# Altium integrated library CommonElectronicsLibrary.IntLib: 214 symbols (part 2 of 4)
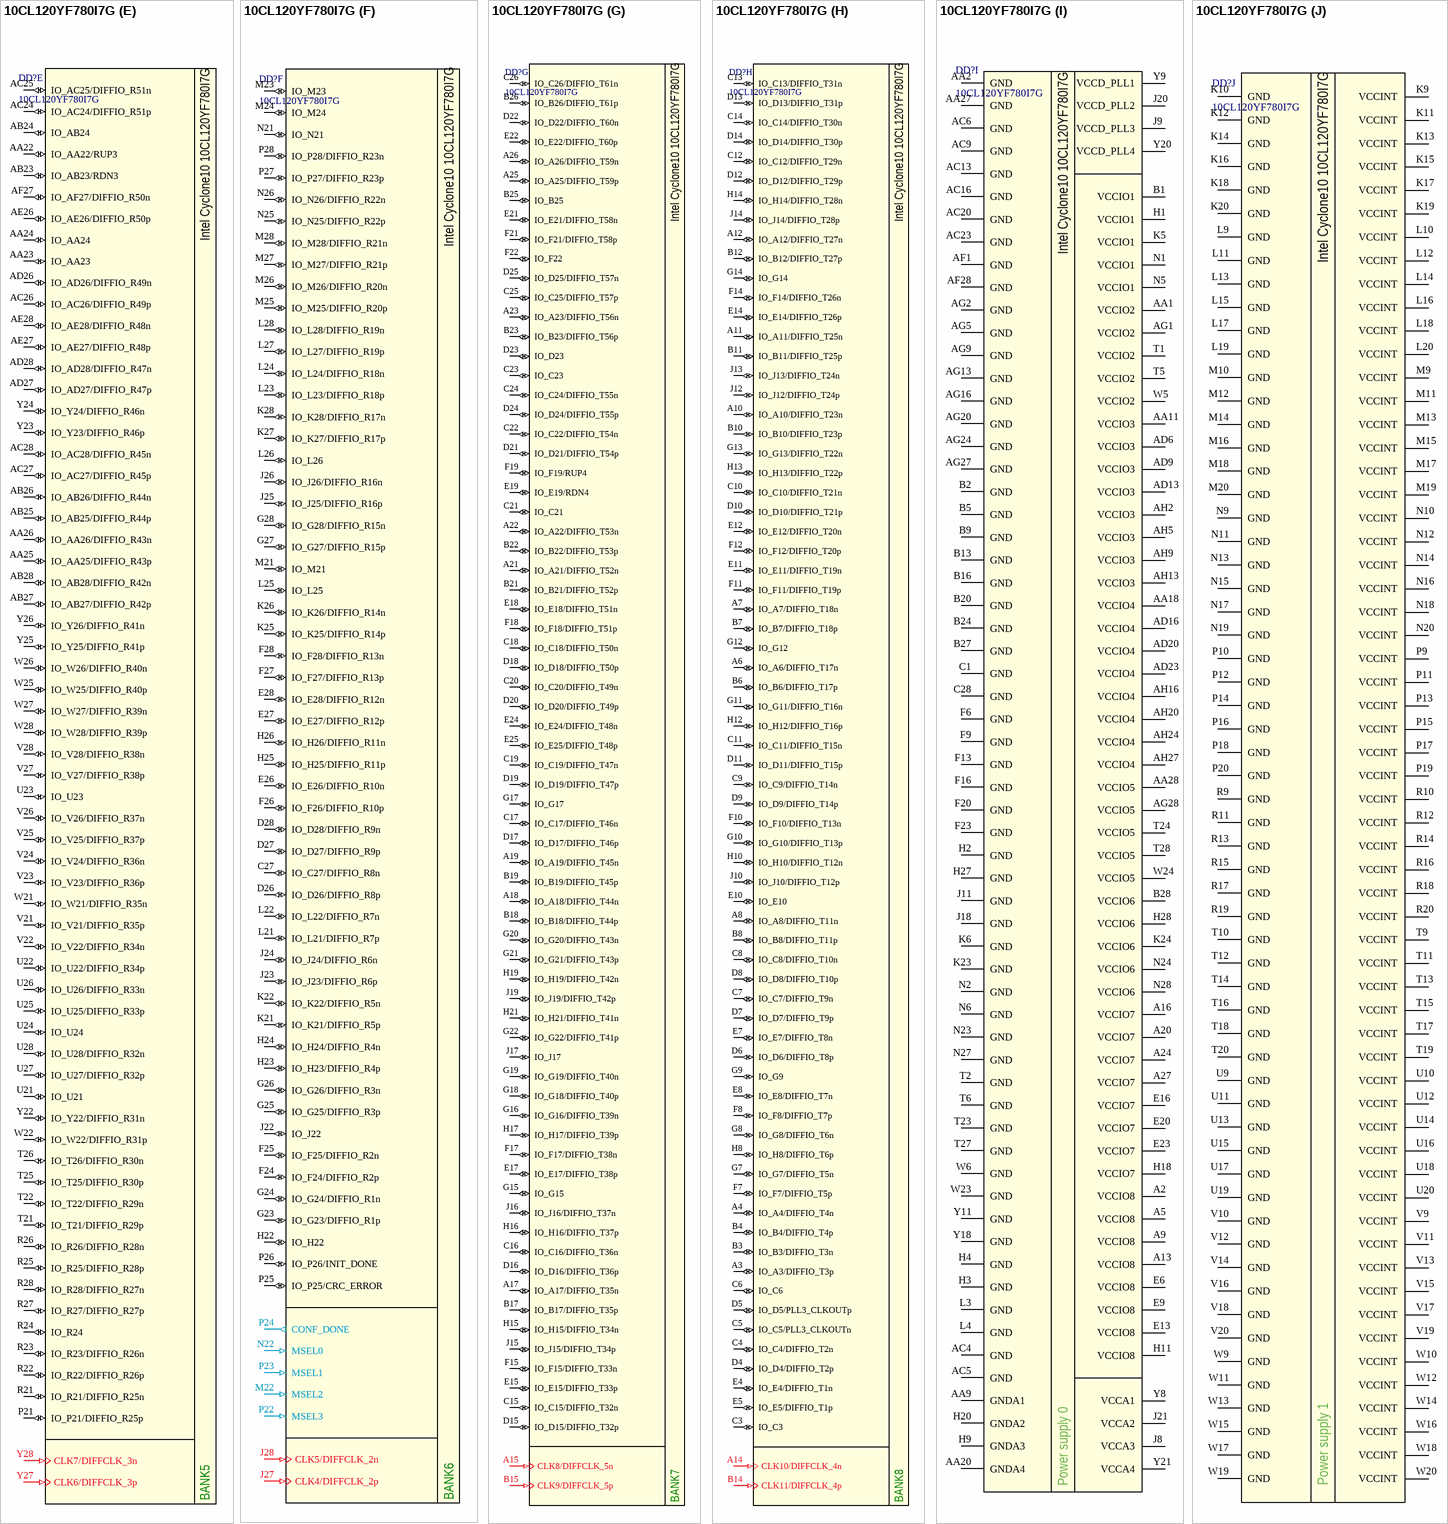
[diagram p61: symbol 10CL120YF780I7G]

## 10CL120YF780I7G
designator DD?
Intel Cyclone 10 FPGA with 120k LEs; Package: FBGA-780; Part Number: 10CL120YF780I7G
part A pins: C2 IO_C2/DIFFIO_L1n (io), D1 IO_D1/DIFFIO_L2n (io), D2 IO_D2/DIFFIO_L2p (io), D3 IO_D3/DIFFIO_L1p (io), E1 IO_E1/DIFFIO_L8n (io), E2 IO_E2/DIFFIO_L8p (io), E3 IO_E3/DIFFIO_L4p (io), F1 IO_F1/DIFFIO_L9n (io), F2 IO_F2/DIFFIO_L9p (io), F3 IO_F3/DIFFIO_L4n (io), F4 IO_F4/DIFFIO_L5n (io), F5 IO_F5/DIFFIO_L5p (io), G1 IO_G1/DIFFIO_L11n (io), G2 IO_G2/DIFFIO_L11p (io), G3 IO_G3/DIFFIO_L6n (io), G4 IO_G4/DIFFIO_L6p (io), G5 IO_G5/DIFFIO_L3n (io), G6 IO_G6/DIFFIO_L3p (io), H5 IO_H5 (io), H6 IO_H6 (io), H7 IO_H7 (io), J1 CLK1/DIFFCLK_0n (in), J2 CLK0/DIFFCLK_0p (in), J3 IO_J3/DIFFIO_L10n (io), J4 IO_J4/DIFFIO_L10p (io), J5 IO_J5/DIFFIO_L16n (io), J6 IO_J6/DIFFIO_L16p (io), J7 IO_J7/DIFFIO_L17p (io), K1 IO_K1/DIFFIO_L12n (io), K2 IO_K2/DIFFIO_L12p (io), K3 IO_K3/DIFFIO_L13n (io), K4 IO_K4/DIFFIO_L13p (io), K7 IO_K7/DIFFIO_L17n (io), K8 IO_K8/DIFFIO_L18p (io), L1 IO_L1/DIFFIO_L22n (io), L2 IO_L2/DIFFIO_L22p (io), L5 IO_L5 (io), L6 IO_L6/DIFFIO_L19n (io), L7 IO_L7/DIFFIO_L19p (io), L8 IO_L8/DIFFIO_L18n (io), M1 IO_M1/DIFFIO_L23n (io), M2 IO_M2/DIFFIO_L23p (io), M3 IO_M3/DIFFIO_L15n (io), M4 IO_M4/DIFFIO_L15p (io), M5 IO_M5 (io), M6 nSTATUS (io), M7 IO_M7/DIFFIO_L21n (io), M8 IO_M8/DIFFIO_L21p (io), N3 IO_N3/DIFFIO_L20n (io), N4 IO_N4/DIFFIO_L20p (io), N7 IO_N7/DATA0 (io), N8 IO_N8 (io), P1 IO_P1/DIFFIO_L24n (io), P2 IO_P2/DIFFIO_L24p (io), P3 IO_P3/DCLK (io), P4 nCONFIG (io), P5 TCK (io), P6 TDO (io), P7 TDI (io), P8 TMS (io), R8 nCE (io)
part B pins: AA3 IO_AA3/DIFFIO_L40n (io), AA4 IO_AA4/DIFFIO_L40p (io), AA5 IO_AA5/DIFFIO_L47n (io), AA6 IO_AA6/DIFFIO_L47p (io), AA7 IO_AA7 (io), AB1 IO_AB1/DIFFIO_L33n (io), AB2 IO_AB2/DIFFIO_L33p (io), AB3 IO_AB3 (io), AB4 IO_AB4 (io), AB5 IO_AB5/DIFFIO_L50n (io), AB6 IO_AB6/DIFFIO_L50p (io), AC1 IO_AC1/DIFFIO_L37n (io), AC2 IO_AC2/DIFFIO_L37p (io), AC3 IO_AC3/DIFFIO_L38p (io), AD1 IO_AD1/DIFFIO_L39n (io), AD2 IO_AD2/DIFFIO_L39p (io), AD3 IO_AD3/DIFFIO_L38n (io), AE1 IO_AE1/DIFFIO_L41n (io), AE2 IO_AE2/DIFFIO_L41p (io), AE3 IO_AE3/DIFFIO_L48p (io), AF2 IO_AF2/DIFFIO_L48n (io), R1 IO_R1/DIFFIO_L25n (io), R2 IO_R2/DIFFIO_L25p (io), R3 IO_R3/DIFFIO_L28p (io), R4 IO_R4/DIFFIO_L28n (io), R5 IO_R5 (io), R6 IO_R6/DIFFIO_L26n (io), R7 IO_R7/DIFFIO_L26p (io), T3 IO_T3/DIFFIO_L29n (io), T4 IO_T4/DIFFIO_L29p (io), T7 IO_T7 (io), T8 IO_T8 (io), U1 IO_U1/DIFFIO_L30n (io), U2 IO_U2/DIFFIO_L30p (io), U3 IO_U3/DIFFIO_L27p (io), U4 IO_U4/DIFFIO_L27n (io), U5 IO_U5/DIFFIO_L35n (io), U6 IO_U6/DIFFIO_L35p (io), U7 IO_U7 (io), U8 IO_U8 (io), V1 IO_V1/DIFFIO_L32n (io), V2 IO_V2/DIFFIO_L32p (io), V3 IO_V3/DIFFIO_L31n (io), V4 IO_V4/DIFFIO_L31p (io), V5 IO_V5/DIFFIO_L42n (io), V6 IO_V6/DIFFIO_L42p (io), V7 IO_V7/DIFFIO_L43n (io), V8 IO_V8/DIFFIO_L43p (io), W1 IO_W1/DIFFIO_L34n (io), W2 IO_W2/DIFFIO_L34p (io), W3 IO_W3/DIFFIO_L44n (io), W4 IO_W4/DIFFIO_L44p (io), W7 IO_W7 (io), W8 IO_W8/DIFFIO_L46p (io), Y1 CLK3/DIFFCLK_1n (in), Y2 CLK2/DIFFCLK_1p (in), Y3 IO_Y3/DIFFIO_L36n (io), Y4 IO_Y4/DIFFIO_L36p (io), Y5 IO_Y5/DIFFIO_L45n (io), Y6 IO_Y6/DIFFIO_L45p (io), Y7 IO_Y7/DIFFIO_L46n (io)
part C pins: AA8 IO_AA8/DIFFIO_B11p (io), AA10 IO_AA10/DIFFIO_B11n (io), AA12 IO_AA12/DIFFIO_B25n (io), AA13 IO_AA13/DIFFIO_B26n (io), AA14 IO_AA14/DIFFIO_B27p (io), AB7 IO_AB7/DIFFIO_B10p (io), AB8 IO_AB8/DIFFIO_B8n (io), AB9 IO_AB9/DIFFIO_B8p (io), AB10 IO_AB10/DIFFIO_B19p (io), AB11 IO_AB11 (io), AB12 IO_AB12/DIFFIO_B22n (io), AB13 IO_AB13 (io), AB14 IO_AB14/DIFFIO_B27n (io), AC7 IO_AC7/DIFFIO_B6n (io), AC8 IO_AC8/DIFFIO_B10n (io), AC10 IO_AC10/DIFFIO_B19n (io), AC11 IO_AC11/DIFFIO_B24p (io), AC12 IO_AC12/DIFFIO_B22p (io), AC14 IO_AC14/DIFFIO_B29p (io), AD4 IO_AD4/DIFFIO_B2p (io), AD5 IO_AD5/DIFFIO_B1p (io), AD7 IO_AD7 (io), AD8 IO_AD8/DIFFIO_B6p (io), AD10 IO_AD10 (io), AD11 IO_AD11/DIFFIO_B24n (io), AD12 IO_AD12 (io), AD14 IO_AD14/DIFFIO_B29n (io), AE4 IO_AE4/DIFFIO_B3p (io), AE5 IO_AE5 (io), AE6 IO_AE6/DIFFIO_B1n (io), AE7 IO_AE7/DIFFIO_B13p (io), AE8 IO_AE8/DIFFIO_B14p (io), AE9 IO_AE9 (io), AE10 IO_AE10/DIFFIO_B15p (io), AE11 IO_AE11/DIFFIO_B18p (io), AE12 IO_AE12/DIFFIO_B17p (io), AE13 IO_AE13/DIFFIO_B21p (io), AE14 IO_AE14/DIFFIO_B23p (io), AF3 IO_AF3/DIFFIO_B4n (io), AF4 IO_AF4/DIFFIO_B2n (io), AF5 IO_AF5 (io), AF6 IO_AF6 (io), AF7 IO_AF7/DIFFIO_B13n (io), AF8 IO_AF8/DIFFIO_B14n (io), AF9 IO_AF9 (io), AF10 IO_AF10/DIFFIO_B15n (io), AF11 IO_AF11/DIFFIO_B18n (io), AF12 IO_AF12/DIFFIO_B17n (io), AF13 IO_AF13/DIFFIO_B21n (io), AF14 IO_AF14/DIFFIO_B23n (io), AG3 IO_AG3/DIFFIO_B3n (io), AG4 IO_AG4/DIFFIO_B5p (io), AG6 IO_AG6/DIFFIO_B7p (io), AG7 IO_AG7/DIFFIO_B9p (io), AG8 IO_AG8/DIFFIO_B12p (io), AG10 IO_AG10/DIFFIO_B16p (io), AG11 IO_AG11/DIFFIO_B20p (io), AG12 IO_AG12/DIFFIO_B28p (io), AG14 CLK15/DIFFCLK_6p (in), AH3 IO_AH3/DIFFIO_B4p (io), AH4 IO_AH4/DIFFIO_B5n (io), AH6 IO_AH6/DIFFIO_B7n (io), AH7 IO_AH7/DIFFIO_B9n (io), AH8 IO_AH8/DIFFIO_B12n (io), AH10 IO_AH10/DIFFIO_B16n (io), AH11 IO_AH11/DIFFIO_B20n (io), AH12 IO_AH12/DIFFIO_B28n (io), AH14 CLK14/DIFFCLK_6n (in), Y10 IO_Y10 (io), Y12 IO_Y12/DIFFIO_B25p (io), Y13 IO_Y13/DIFFIO_B26p (io), Y14 IO_Y14/DIFFIO_B30p (io), Y15 IO_Y15/DIFFIO_B30n (io)
part D pins: AA15 IO_AA15 (io), AA16 IO_AA16/DIFFIO_B35p (io), AA17 IO_AA17/RUP2 (io), AA19 IO_AA19/DIFFIO_B56n (io), AA21 IO_AA21 (io), AB15 IO_AB15 (io), AB16 IO_AB16/DIFFIO_B35n (io), AB17 IO_AB17/RDN2 (io), AB18 IO_AB18/DIFFIO_B53n (io), AB19 IO_AB19/DIFFIO_B53p (io), AB20 IO_AB20 (io), AB21 IO_AB21/DIFFIO_B57n (io), AB22 IO_AB22/DIFFIO_B57p (io), AC15 IO_AC15/DIFFIO_B31p (io), AC17 IO_AC17/DIFFIO_B39p (io), AC18 IO_AC18 (io), AC19 IO_AC19/DIFFIO_B50p (io), AC21 IO_AC21/DIFFIO_B55p (io), AC22 IO_AC22/DIFFIO_B58p (io), AD15 IO_AD15/DIFFIO_B31n (io), AD17 IO_AD17/DIFFIO_B39n (io), AD18 IO_AD18 (io), AD19 IO_AD19/DIFFIO_B50n (io), AD21 IO_AD21/DIFFIO_B55n (io), AD22 IO_AD22/DIFFIO_B58n (io), AD24 IO_AD24 (io), AD25 IO_AD25/DIFFIO_B54p (io), AE15 IO_AE15/DIFFIO_B32p (io), AE16 IO_AE16/DIFFIO_B34p (io), AE17 IO_AE17/DIFFIO_B36p (io), AE18 IO_AE18/DIFFIO_B41p (io), AE19 IO_AE19/DIFFIO_B44p (io), AE20 IO_AE20/DIFFIO_B46p (io), AE21 IO_AE21/DIFFIO_B47p (io), AE22 IO_AE22/DIFFIO_B52p (io), AE23 IO_AE23 (io), AE24 IO_AE24/DIFFIO_B54n (io), AE25 IO_AE25/DIFFIO_B48p (io), AF15 IO_AF15/DIFFIO_B32n (io), AF16 IO_AF16/DIFFIO_B34n (io), AF17 IO_AF17/DIFFIO_B36n (io), AF18 IO_AF18/DIFFIO_B41n (io), AF19 IO_AF19/DIFFIO_B44n (io), AF20 IO_AF20/DIFFIO_B46n (io), AF21 IO_AF21/DIFFIO_B47n (io), AF22 IO_AF22/DIFFIO_B52n (io), AF23 IO_AF23 (io), AF24 IO_AF24/DIFFIO_B45p (io), AF25 IO_AF25/DIFFIO_B45n (io), AF26 IO_AF26/DIFFIO_B48n (io), AG15 CLK13/DIFFCLK_7p (in), AG17 IO_AG17/DIFFIO_B33p (io), AG18 IO_AG18/DIFFIO_B37p (io), AG19 IO_AG19/DIFFIO_B38p (io), AG21 IO_AG21/DIFFIO_B40p (io), AG22 IO_AG22/DIFFIO_B42p (io), AG23 IO_AG23/DIFFIO_B43p (io), AG25 IO_AG25/DIFFIO_B49p (io), AG26 IO_AG26/DIFFIO_B59p (io), AH15 CLK12/DIFFCLK_7n (in), AH17 IO_AH17/DIFFIO_B33n (io), AH18 IO_AH18/DIFFIO_B37n (io), AH19 IO_AH19/DIFFIO_B38n (io), AH21 IO_AH21/DIFFIO_B40n (io), AH22 IO_AH22/DIFFIO_B42n (io), AH23 IO_AH23/DIFFIO_B43n (io), AH25 IO_AH25/DIFFIO_B49n (io), AH26 IO_AH26/DIFFIO_B59n (io), Y16 IO_Y16/DIFFIO_B51n (io), Y17 IO_Y17/DIFFIO_B51p (io), Y19 IO_Y19/DIFFIO_B56p (io)
part E pins: AA22 IO_AA22/RUP3 (io), AA23 IO_AA23 (io), AA24 IO_AA24 (io), AA25 IO_AA25/DIFFIO_R43p (io), AA26 IO_AA26/DIFFIO_R43n (io), AB23 IO_AB23/RDN3 (io), AB24 IO_AB24 (io), AB25 IO_AB25/DIFFIO_R44p (io), AB26 IO_AB26/DIFFIO_R44n (io), AB27 IO_AB27/DIFFIO_R42p (io), AB28 IO_AB28/DIFFIO_R42n (io), AC24 IO_AC24/DIFFIO_R51p (io), AC25 IO_AC25/DIFFIO_R51n (io), AC26 IO_AC26/DIFFIO_R49p (io), AC27 IO_AC27/DIFFIO_R45p (io), AC28 IO_AC28/DIFFIO_R45n (io), AD26 IO_AD26/DIFFIO_R49n (io), AD27 IO_AD27/DIFFIO_R47p (io), AD28 IO_AD28/DIFFIO_R47n (io), AE26 IO_AE26/DIFFIO_R50p (io), AE27 IO_AE27/DIFFIO_R48p (io), AE28 IO_AE28/DIFFIO_R48n (io), AF27 IO_AF27/DIFFIO_R50n (io), P21 IO_P21/DIFFIO_R25p (io), R21 IO_R21/DIFFIO_R25n (io), R22 IO_R22/DIFFIO_R26p (io), R23 IO_R23/DIFFIO_R26n (io), R24 IO_R24 (io), R25 IO_R25/DIFFIO_R28p (io), R26 IO_R26/DIFFIO_R28n (io), R27 IO_R27/DIFFIO_R27p (io), R28 IO_R28/DIFFIO_R27n (io), T21 IO_T21/DIFFIO_R29p (io), T22 IO_T22/DIFFIO_R29n (io), T25 IO_T25/DIFFIO_R30p (io), T26 IO_T26/DIFFIO_R30n (io), U21 IO_U21 (io), U22 IO_U22/DIFFIO_R34p (io), U23 IO_U23 (io), U24 IO_U24 (io), U25 IO_U25/DIFFIO_R33p (io), U26 IO_U26/DIFFIO_R33n (io), U27 IO_U27/DIFFIO_R32p (io), U28 IO_U28/DIFFIO_R32n (io), V21 IO_V21/DIFFIO_R35p (io), V22 IO_V22/DIFFIO_R34n (io), V23 IO_V23/DIFFIO_R36p (io), V24 IO_V24/DIFFIO_R36n (io), V25 IO_V25/DIFFIO_R37p (io), V26 IO_V26/DIFFIO_R37n (io), V27 IO_V27/DIFFIO_R38p (io), V28 IO_V28/DIFFIO_R38n (io), W21 IO_W21/DIFFIO_R35n (io), W22 IO_W22/DIFFIO_R31p (io), W25 IO_W25/DIFFIO_R40p (io), W26 IO_W26/DIFFIO_R40n (io), W27 IO_W27/DIFFIO_R39n (io), W28 IO_W28/DIFFIO_R39p (io), Y22 IO_Y22/DIFFIO_R31n (io), Y23 IO_Y23/DIFFIO_R46p (io), Y24 IO_Y24/DIFFIO_R46n (io), Y25 IO_Y25/DIFFIO_R41p (io), Y26 IO_Y26/DIFFIO_R41n (io), Y27 CLK6/DIFFCLK_3p (in), Y28 CLK7/DIFFCLK_3n (in)
part F pins: C27 IO_C27/DIFFIO_R8n (io), D26 IO_D26/DIFFIO_R8p (io), D27 IO_D27/DIFFIO_R9p (io), D28 IO_D28/DIFFIO_R9n (io), E26 IO_E26/DIFFIO_R10n (io), E27 IO_E27/DIFFIO_R12p (io), E28 IO_E28/DIFFIO_R12n (io), F24 IO_F24/DIFFIO_R2p (io), F25 IO_F25/DIFFIO_R2n (io), F26 IO_F26/DIFFIO_R10p (io), F27 IO_F27/DIFFIO_R13p (io), F28 IO_F28/DIFFIO_R13n (io), G23 IO_G23/DIFFIO_R1p (io), G24 IO_G24/DIFFIO_R1n (io), G25 IO_G25/DIFFIO_R3p (io), G26 IO_G26/DIFFIO_R3n (io), G27 IO_G27/DIFFIO_R15p (io), G28 IO_G28/DIFFIO_R15n (io), H22 IO_H22 (io), H23 IO_H23/DIFFIO_R4p (io), H24 IO_H24/DIFFIO_R4n (io), H25 IO_H25/DIFFIO_R11p (io), H26 IO_H26/DIFFIO_R11n (io), J22 IO_J22 (io), J23 IO_J23/DIFFIO_R6p (io), J24 IO_J24/DIFFIO_R6n (io), J25 IO_J25/DIFFIO_R16p (io), J26 IO_J26/DIFFIO_R16n (io), J27 CLK4/DIFFCLK_2p (in), J28 CLK5/DIFFCLK_2n (in), K21 IO_K21/DIFFIO_R5p (io), K22 IO_K22/DIFFIO_R5n (io), K25 IO_K25/DIFFIO_R14p (io), K26 IO_K26/DIFFIO_R14n (io), K27 IO_K27/DIFFIO_R17p (io), K28 IO_K28/DIFFIO_R17n (io), L21 IO_L21/DIFFIO_R7p (io), L22 IO_L22/DIFFIO_R7n (io), L23 IO_L23/DIFFIO_R18p (io), L24 IO_L24/DIFFIO_R18n (io), L25 IO_L25 (io), L26 IO_L26 (io), L27 IO_L27/DIFFIO_R19p (io), L28 IO_L28/DIFFIO_R19n (io), M21 IO_M21 (io), M22 MSEL2 (in), M23 IO_M23 (io), M24 IO_M24 (io), M25 IO_M25/DIFFIO_R20p (io), M26 IO_M26/DIFFIO_R20n (io), M27 IO_M27/DIFFIO_R21p (io), M28 IO_M28/DIFFIO_R21n (io), N21 IO_N21 (io), N22 MSEL0 (in), N25 IO_N25/DIFFIO_R22p (io), N26 IO_N26/DIFFIO_R22n (io), P22 MSEL3 (in), P23 MSEL1 (in), P24 CONF_DONE (out), P25 IO_P25/CRC_ERROR (io), P26 IO_P26/INIT_DONE (io), P27 IO_P27/DIFFIO_R23p (io), P28 IO_P28/DIFFIO_R23n (io)
part G pins: A15 CLK8/DIFFCLK_5n (in), A17 IO_A17/DIFFIO_T35n (io), A18 IO_A18/DIFFIO_T44n (io), A19 IO_A19/DIFFIO_T45n (io), A21 IO_A21/DIFFIO_T52n (io), A22 IO_A22/DIFFIO_T53n (io), A23 IO_A23/DIFFIO_T56n (io), A25 IO_A25/DIFFIO_T59p (io), A26 IO_A26/DIFFIO_T59n (io), B15 CLK9/DIFFCLK_5p (in), B17 IO_B17/DIFFIO_T35p (io), B18 IO_B18/DIFFIO_T44p (io), B19 IO_B19/DIFFIO_T45p (io), B21 IO_B21/DIFFIO_T52p (io), B22 IO_B22/DIFFIO_T53p (io), B23 IO_B23/DIFFIO_T56p (io), B25 IO_B25 (io), B26 IO_B26/DIFFIO_T61p (io), C15 IO_C15/DIFFIO_T32n (io), C16 IO_C16/DIFFIO_T36n (io), C17 IO_C17/DIFFIO_T46n (io), C18 IO_C18/DIFFIO_T50n (io), C19 IO_C19/DIFFIO_T47n (io), C20 IO_C20/DIFFIO_T49n (io), C21 IO_C21 (io), C22 IO_C22/DIFFIO_T54n (io), C23 IO_C23 (io), C24 IO_C24/DIFFIO_T55n (io), C25 IO_C25/DIFFIO_T57p (io), C26 IO_C26/DIFFIO_T61n (io), D15 IO_D15/DIFFIO_T32p (io), D16 IO_D16/DIFFIO_T36p (io), D17 IO_D17/DIFFIO_T46p (io), D18 IO_D18/DIFFIO_T50p (io), D19 IO_D19/DIFFIO_T47p (io), D20 IO_D20/DIFFIO_T49p (io), D21 IO_D21/DIFFIO_T54p (io), D22 IO_D22/DIFFIO_T60n (io), D23 IO_D23 (io), D24 IO_D24/DIFFIO_T55p (io), D25 IO_D25/DIFFIO_T57n (io), E15 IO_E15/DIFFIO_T33p (io), E17 IO_E17/DIFFIO_T38p (io), E18 IO_E18/DIFFIO_T51n (io), E19 IO_E19/RDN4 (io), E21 IO_E21/DIFFIO_T58n (io), E22 IO_E22/DIFFIO_T60p (io), E24 IO_E24/DIFFIO_T48n (io), E25 IO_E25/DIFFIO_T48p (io), F15 IO_F15/DIFFIO_T33n (io), F17 IO_F17/DIFFIO_T38n (io), F18 IO_F18/DIFFIO_T51p (io), F19 IO_F19/RUP4 (io), F21 IO_F21/DIFFIO_T58p (io), F22 IO_F22 (io), G15 IO_G15 (io), G16 IO_G16/DIFFIO_T39n (io), G17 IO_G17 (io), G18 IO_G18/DIFFIO_T40p (io), G19 IO_G19/DIFFIO_T40n (io), G20 IO_G20/DIFFIO_T43n (io), G21 IO_G21/DIFFIO_T43p (io), G22 IO_G22/DIFFIO_T41p (io), H15 IO_H15/DIFFIO_T34n (io), H16 IO_H16/DIFFIO_T37p (io), H17 IO_H17/DIFFIO_T39p (io), H19 IO_H19/DIFFIO_T42n (io), H21 IO_H21/DIFFIO_T41n (io), J15 IO_J15/DIFFIO_T34p (io), J16 IO_J16/DIFFIO_T37n (io), J17 IO_J17 (io), J19 IO_J19/DIFFIO_T42p (io)
part H pins: A3 IO_A3/DIFFIO_T3p (io), A4 IO_A4/DIFFIO_T4n (io), A6 IO_A6/DIFFIO_T17n (io), A7 IO_A7/DIFFIO_T18n (io), A8 IO_A8/DIFFIO_T11n (io), A10 IO_A10/DIFFIO_T23n (io), A11 IO_A11/DIFFIO_T25n (io), A12 IO_A12/DIFFIO_T27n (io), A14 CLK10/DIFFCLK_4n (in), B3 IO_B3/DIFFIO_T3n (io), B4 IO_B4/DIFFIO_T4p (io), B6 IO_B6/DIFFIO_T17p (io), B7 IO_B7/DIFFIO_T18p (io), B8 IO_B8/DIFFIO_T11p (io), B10 IO_B10/DIFFIO_T23p (io), B11 IO_B11/DIFFIO_T25p (io), B12 IO_B12/DIFFIO_T27p (io), B14 CLK11/DIFFCLK_4p (in), C3 IO_C3 (io), C4 IO_C4/DIFFIO_T2n (io), C5 IO_C5/PLL3_CLKOUTn (io), C6 IO_C6 (io), C7 IO_C7/DIFFIO_T9n (io), C8 IO_C8/DIFFIO_T10n (io), C9 IO_C9/DIFFIO_T14n (io), C10 IO_C10/DIFFIO_T21n (io), C11 IO_C11/DIFFIO_T15n (io), C12 IO_C12/DIFFIO_T29n (io), C13 IO_C13/DIFFIO_T31n (io), C14 IO_C14/DIFFIO_T30n (io), D4 IO_D4/DIFFIO_T2p (io), D5 IO_D5/PLL3_CLKOUTp (io), D6 IO_D6/DIFFIO_T8p (io), D7 IO_D7/DIFFIO_T9p (io), D8 IO_D8/DIFFIO_T10p (io), D9 IO_D9/DIFFIO_T14p (io), D10 IO_D10/DIFFIO_T21p (io), D11 IO_D11/DIFFIO_T15p (io), D12 IO_D12/DIFFIO_T29p (io), D13 IO_D13/DIFFIO_T31p (io), D14 IO_D14/DIFFIO_T30p (io), E4 IO_E4/DIFFIO_T1n (io), E5 IO_E5/DIFFIO_T1p (io), E7 IO_E7/DIFFIO_T8n (io), E8 IO_E8/DIFFIO_T7n (io), E10 IO_E10 (io), E11 IO_E11/DIFFIO_T19n (io), E12 IO_E12/DIFFIO_T20n (io), E14 IO_E14/DIFFIO_T26p (io), F7 IO_F7/DIFFIO_T5p (io), F8 IO_F8/DIFFIO_T7p (io), F10 IO_F10/DIFFIO_T13n (io), F11 IO_F11/DIFFIO_T19p (io), F12 IO_F12/DIFFIO_T20p (io), F14 IO_F14/DIFFIO_T26n (io), G7 IO_G7/DIFFIO_T5n (io), G8 IO_G8/DIFFIO_T6n (io), G9 IO_G9 (io), G10 IO_G10/DIFFIO_T13p (io), G11 IO_G11/DIFFIO_T16n (io), G12 IO_G12 (io), G13 IO_G13/DIFFIO_T22n (io), G14 IO_G14 (io), H8 IO_H8/DIFFIO_T6p (io), H10 IO_H10/DIFFIO_T12n (io), H12 IO_H12/DIFFIO_T16p (io), H13 IO_H13/DIFFIO_T22p (io), H14 IO_H14/DIFFIO_T28n (io), J10 IO_J10/DIFFIO_T12p (io), J12 IO_J12/DIFFIO_T24p (io), J13 IO_J13/DIFFIO_T24n (io), J14 IO_J14/DIFFIO_T28p (io)
part I pins: A2 VCCIO8 (power), A5 VCCIO8 (power), A9 VCCIO8 (power), A13 VCCIO8 (power), A16 VCCIO7 (power), A20 VCCIO7 (power), A24 VCCIO7 (power), A27 VCCIO7 (power), AA1 VCCIO2 (power), AA2 GND (power), AA9 GNDA1 (power), AA11 VCCIO3 (power), AA18 VCCIO4 (power), AA20 GNDA4 (power), AA27 GND (power), AA28 VCCIO5 (power), AC4 GND (power), AC5 GND (power), AC6 GND (power), AC9 GND (power), AC13 GND (power), AC16 GND (power), AC20 GND (power), AC23 GND (power), AD6 VCCIO3 (power), AD9 VCCIO3 (power), AD13 VCCIO3 (power), AD16 VCCIO4 (power), AD20 VCCIO4 (power), AD23 VCCIO4 (power), AF1 GND (power), AF28 GND (power), AG1 VCCIO2 (power), AG2 GND (power), AG5 GND (power), AG9 GND (power), AG13 GND (power), AG16 GND (power), AG20 GND (power), AG24 GND (power), AG27 GND (power), AG28 VCCIO5 (power), AH2 VCCIO3 (power), AH5 VCCIO3 (power), AH9 VCCIO3 (power), AH13 VCCIO3 (power), AH16 VCCIO4 (power), AH20 VCCIO4 (power), AH24 VCCIO4 (power), AH27 VCCIO4 (power), B1 VCCIO1 (power), B2 GND (power), B5 GND (power), B9 GND (power), B13 GND (power), B16 GND (power), B20 GND (power), B24 GND (power), B27 GND (power), B28 VCCIO6 (power), C1 GND (power), C28 GND (power), E6 VCCIO8 (power), E9 VCCIO8 (power), E13 VCCIO8 (power), E16 VCCIO7 (power), E20 VCCIO7 (power), E23 VCCIO7 (power), F6 GND (power), F9 GND (power), F13 GND (power), F16 GND (power), F20 GND (power), F23 GND (power), H1 VCCIO1 (power), H2 GND (power), H3 GND (power), H4 GND (power), H9 GNDA3 (power), H11 VCCIO8 (power), H18 VCCIO7 (power), H20 GNDA2 (power), H27 GND (power), H28 VCCIO6 (power), J8 VCCA3 (power), J9 VCCD_PLL3 (power), J11 GND (power), J18 GND (power), J20 VCCD_PLL2 (power), J21 VCCA2 (power), K5 VCCIO1 (power), K6 GND (power), K23 GND (power), K24 VCCIO6 (power), L3 GND (power), L4 GND (power), N1 VCCIO1 (power), N2 GND (power), N5 VCCIO1 (power), N6 GND (power), N23 GND (power), N24 VCCIO6 (power), N27 GND (power), N28 VCCIO6 (power), T1 VCCIO2 (power), T2 GND (power), T5 VCCIO2 (power), T6 GND (power), T23 GND (power), T24 VCCIO5 (power), T27 GND (power), T28 VCCIO5 (power), W5 VCCIO2 (power), W6 GND (power), W23 GND (power), W24 VCCIO5 (power), Y8 VCCA1 (power), Y9 VCCD_PLL1 (power), Y11 GND (power), Y18 GND (power), Y20 VCCD_PLL4 (power), Y21 VCCA4 (power)
part J pins: K9 VCCINT (power), K10 GND (power), K11 VCCINT (power), K12 GND (power), K13 VCCINT (power), K14 GND (power), K15 VCCINT (power), K16 GND (power), K17 VCCINT (power), K18 GND (power), K19 VCCINT (power), K20 GND (power), L9 GND (power), L10 VCCINT (power), L11 GND (power), L12 VCCINT (power), L13 GND (power), L14 VCCINT (power), L15 GND (power), L16 VCCINT (power), L17 GND (power), L18 VCCINT (power), L19 GND (power), L20 VCCINT (power), M9 VCCINT (power), M10 GND (power), M11 VCCINT (power), M12 GND (power), M13 VCCINT (power), M14 GND (power), M15 VCCINT (power), M16 GND (power), M17 VCCINT (power), M18 GND (power), M19 VCCINT (power), M20 GND (power), N9 GND (power), N10 VCCINT (power), N11 GND (power), N12 VCCINT (power), N13 GND (power), N14 VCCINT (power), N15 GND (power), N16 VCCINT (power), N17 GND (power), N18 VCCINT (power), N19 GND (power), N20 VCCINT (power), P9 VCCINT (power), P10 GND (power), P11 VCCINT (power), P12 GND (power), P13 VCCINT (power), P14 GND (power), P15 VCCINT (power), P16 GND (power), P17 VCCINT (power), P18 GND (power), P19 VCCINT (power), P20 GND (power), R9 GND (power), R10 VCCINT (power), R11 GND (power), R12 VCCINT (power), R13 GND (power), R14 VCCINT (power), R15 GND (power), R16 VCCINT (power), R17 GND (power), R18 VCCINT (power), R19 GND (power), R20 VCCINT (power), T9 VCCINT (power), T10 GND (power), T11 VCCINT (power), T12 GND (power), T13 VCCINT (power), T14 GND (power), T15 VCCINT (power), T16 GND (power), T17 VCCINT (power), T18 GND (power), T19 VCCINT (power), T20 GND (power), U9 GND (power), U10 VCCINT (power), U11 GND (power), U12 VCCINT (power), U13 GND (power), U14 VCCINT (power), U15 GND (power), U16 VCCINT (power), U17 GND (power), U18 VCCINT (power), U19 GND (power), U20 VCCINT (power), V9 VCCINT (power), V10 GND (power), V11 VCCINT (power), V12 GND (power), V13 VCCINT (power), V14 GND (power), V15 VCCINT (power), V16 GND (power), V17 VCCINT (power), V18 GND (power), V19 VCCINT (power), V20 GND (power), W9 GND (power), W10 VCCINT (power), W11 GND (power), W12 VCCINT (power), W13 GND (power), W14 VCCINT (power), W15 GND (power), W16 VCCINT (power), W17 GND (power), W18 VCCINT (power), W19 GND (power), W20 VCCINT (power)
part A text: Intel Cyclone10 10CL120YF780I7G; BANK1
part B text: Intel Cyclone10 10CL120YF780I7G; BANK2
part C text: Intel Cyclone10 10CL120YF780I7G; BANK3
part D text: Intel Cyclone10 10CL120YF780I7G; BANK4
part E text: Intel Cyclone10 10CL120YF780I7G; BANK5
part F text: Intel Cyclone10 10CL120YF780I7G; BANK6
part G text: Intel Cyclone10 10CL120YF780I7G; BANK7
part H text: Intel Cyclone10 10CL120YF780I7G; BANK8
part I text: Intel Cyclone10 10CL120YF780I7G; Power supply 0
part J text: Intel Cyclone10 10CL120YF780I7G; Power supply 1

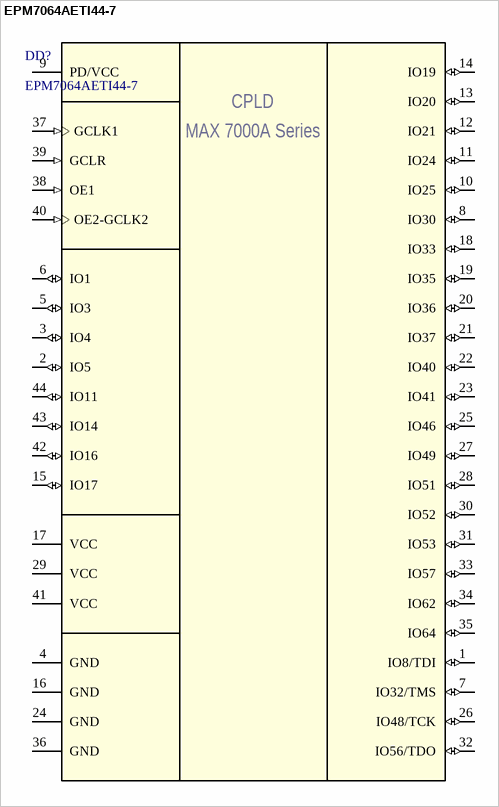
[diagram p12: symbol EPM7064AETI44-7]

## EPM7064AETI44-7
designator DD?
CPLD Max 7000A Series 64 Macrocells; Part Number: EPM7064AETI44-7; Package: TQFP44
pins: 1 IO8/TDI (io), 2 IO5 (io), 3 IO4 (io), 4 GND (power), 5 IO3 (io), 6 IO1 (io), 7 IO32/TMS (io), 8 IO30 (io), 9 PD/VCC, 10 IO25 (io), 11 IO24 (io), 12 IO21 (io), 13 IO20 (io), 14 IO19 (io), 15 IO17 (io), 16 GND (power), 17 VCC (power), 18 IO33 (io), 19 IO35 (io), 20 IO36 (io), 21 IO37 (io), 22 IO40 (io), 23 IO41 (io), 24 GND (power), 25 IO46 (io), 26 IO48/TCK (io), 27 IO49 (io), 28 IO51 (io), 29 VCC (power), 30 IO52 (io), 31 IO53 (io), 32 IO56/TDO (io), 33 IO57 (io), 34 IO62 (io), 35 IO64 (io), 36 GND (power), 37 GCLK1 (in), 38 OE1 (in), 39 GCLR (in), 40 OE2-GCLK2 (in), 41 VCC (power), 42 IO16 (io), 43 IO14 (io), 44 IO11 (io)
text: CPLD; MAX 7000A Series


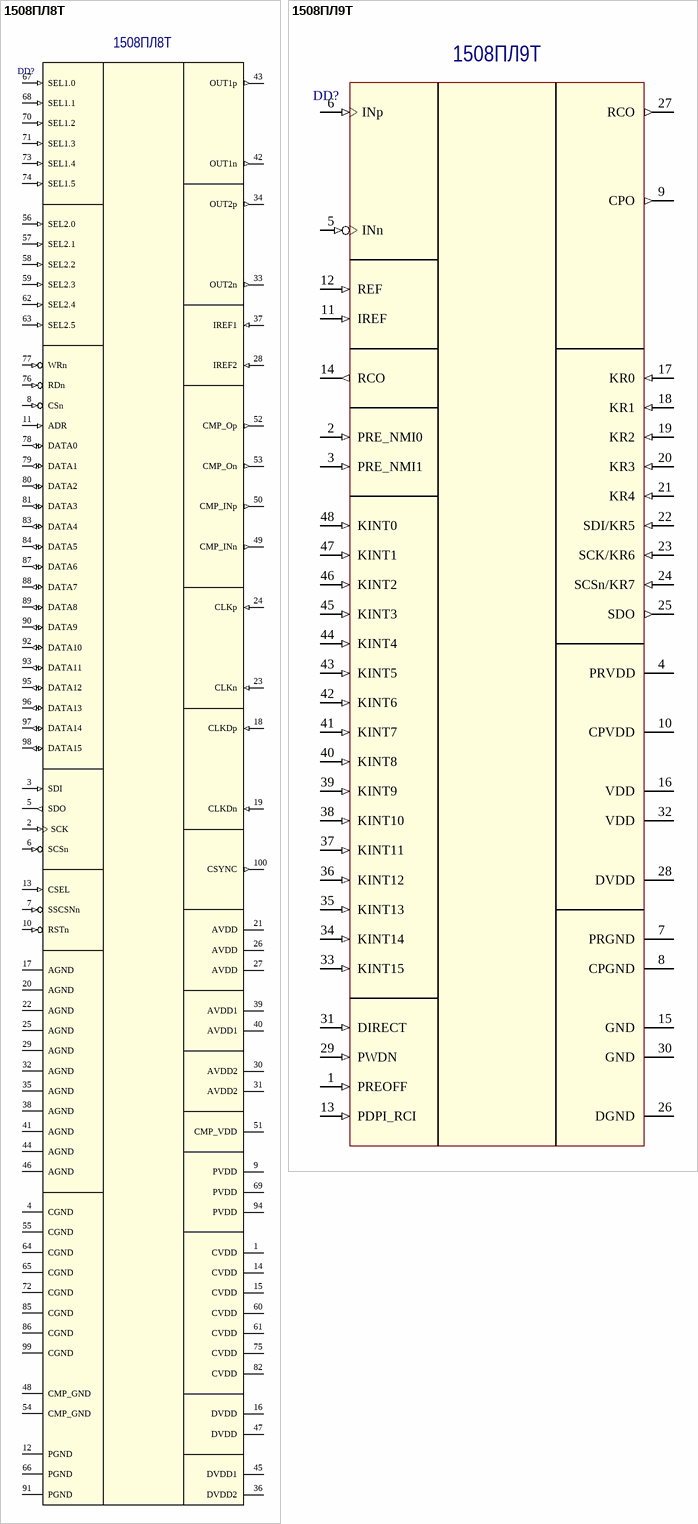
[diagram p13: symbols 1508ПЛ8Т to 1508ПЛ9Т]

## 1508ПЛ8Т
designator DD?
DDS; Package: LQFP-100; Part Number: 1508ПЛ8Т
3D model Model Name (Model Description)
pins: 1 CVDD (power), 2 SCK (in), 3 SDI (in), 4 CGND (power), 5 SDO (out), 6 SCSn (in), 7 SSCSNn (in), 8 CSn (in), 9 PVDD (power), 10 RSTn (in), 11 ADR (in), 12 PGND (power), 13 CSEL (in), 14 CVDD (power), 15 CVDD (power), 16 DVDD (power), 17 AGND (power), 18 CLKDp (in), 19 CLKDn (in), 20 AGND (power), 21 AVDD (power), 22 AGND (power), 23 CLKn (in), 24 CLKp (in), 25 AGND (power), 26 AVDD (power), 27 AVDD (power), 28 IREF2 (in), 29 AGND (power), 30 AVDD2 (power), 31 AVDD2 (power), 32 AGND (power), 33 OUT2n (out), 34 OUT2p (out), 35 AGND (power), 36 DVDD2 (power), 37 IREF1 (in), 38 AGND (power), 39 AVDD1 (power), 40 AVDD1 (power), 41 AGND (power), 42 OUT1n (out), 43 OUT1p (out), 44 AGND (power), 45 DVDD1 (power), 46 AGND (power), 47 DVDD (power), 48 CMP_GND (power), 49 CMP_INn (out), 50 CMP_INp (out), 51 CMP_VDD (power), 52 CMP_Op (out), 53 CMP_On (out), 54 CMP_GND (power), 55 CGND (power), 56 SEL2.0 (in), 57 SEL2.1 (in), 58 SEL2.2 (in), 59 SEL2.3 (in), 60 CVDD (power), 61 CVDD (power), 62 SEL2.4 (in), 63 SEL2.5 (in), 64 CGND (power), 65 CGND (power), 66 PGND (power), 67 SEL1.0 (in), 68 SEL1.1 (in), 69 PVDD (power), 70 SEL1.2 (in), 71 SEL1.3 (in), 72 CGND (power), 73 SEL1.4 (in), 74 SEL1.5 (in), 75 CVDD (power), 76 RDn (in), 77 WRn (in), 78 DATA0 (io), 79 DATA1 (io), 80 DATA2 (io), 81 DATA3 (io), 82 CVDD (power), 83 DATA4 (io), 84 DATA5 (io), 85 CGND (power), 86 CGND (power), 87 DATA6 (io), 88 DATA7 (io), 89 DATA8 (io), 90 DATA9 (io), 91 PGND (power), 92 DATA10 (io), 93 DATA11 (io), 94 PVDD (power), 95 DATA12 (io), 96 DATA13 (io), 97 DATA14 (io), 98 DATA15 (io), 99 CGND (power), 100 CSYNC (out)

## 1508ПЛ9Т
designator DD?
PLL; Package: LQFP-48; Part Number: 1508ПЛ9Т
pins: 1 PREOFF (in), 2 PRE_NMI0 (in), 3 PRE_NMI1 (in), 4 PRVDD (power), 5 INn (in), 6 INp (in), 7 PRGND (power), 8 CPGND (power), 9 CPO (out), 10 CPVDD (power), 11 IREF (in), 12 REF (in), 13 PDPI_RCI (in), 14 RCO (out), 15 GND (power), 16 VDD (power), 17 KR0 (in), 18 KR1 (in), 19 KR2 (in), 20 KR3 (in), 21 KR4 (in), 22 SDI/KR5 (in), 23 SCK/KR6 (in), 24 SCSn/KR7 (in), 25 SDO (out), 26 DGND (power), 27 RCO (out), 28 DVDD (power), 29 PWDN (in), 30 GND (power), 31 DIRECT (in), 32 VDD (power), 33 KINT15 (in), 34 KINT14 (in), 35 KINT13 (in), 36 KINT12 (in), 37 KINT11 (in), 38 KINT10 (in), 39 KINT9 (in), 40 KINT8 (in), 41 KINT7 (in), 42 KINT6 (in), 43 KINT5 (in), 44 KINT4 (in), 45 KINT3 (in), 46 KINT2 (in), 47 KINT1 (in), 48 KINT0 (in)


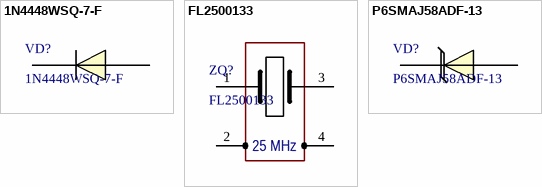
[diagram p14: symbols 1N4448WSQ-7-F to P6SMAJ58ADF-13]

## 1N4448WSQ-7-F
designator VD?
Fast switching diode 75V, 200 mA; Manufacturer: Diodes Incorporated; Part Number: 1N4448WSQ-7-F; Package: SOD-323
pins: 1 CATHODE, 2 ANODE (power)

## FL2500133
designator ZQ?
25 MHz crystal resonator ±15ppm; Manufacturer: AVX Corp/Kyocera Corp; Load Capacitance: 18pF; Equivalent Series Resistance: 40 Ohm; Part Number: FL2500133; Package: SMD3225 (3.20mm x 2.50mm)
pins: 1 XTAL0, 2 GND (power), 3 XTAL1, 4 GND (power)
text: 25 MHz

## P6SMAJ58ADF-13
designator VD?
Transient voltage suppressor (600W); Manufacturer: Diodes Incorporated; Part Number: P6SMAJ58ADF-13; Package: D-Flat (5.6 x 2.95 mm)
pins: 1 CATHODE, 2 ANODE (power)


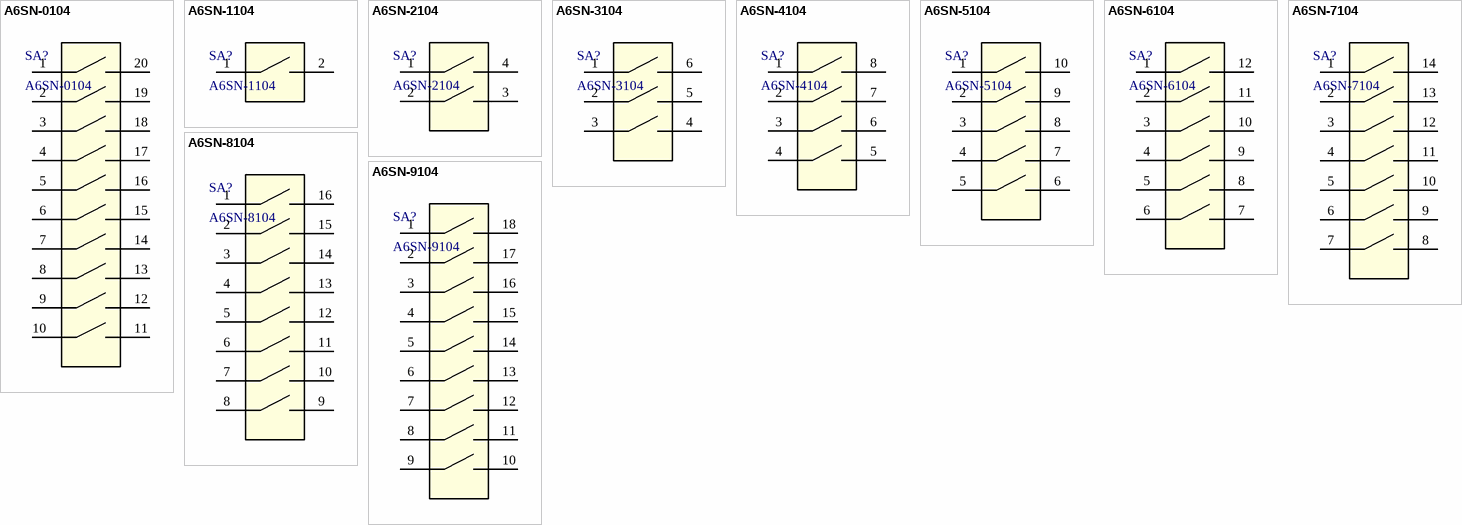
[diagram p15: symbols A6SN-0104 to A6SN-9104]

## A6SN-0104
designator SA?
Switch slide DIP SPST 25MA 24V (Actuator Level - Raised); Poles: 10; Part Number: A6SN-0104
pins: 1, 2, 3, 4, 5, 6, 7, 8, 9, 10, 11, 12, 13, 14, 15, 16, 17, 18, 19, 20

## A6SN-1104
designator SA?
Switch slide DIP SPST 25MA 24V (Actuator Level - Raised); Poles: 1; Part Number: A6SN-1104
pins: 1, 2

## A6SN-2104
designator SA?
Switch slide DIP SPST 25MA 24V (Actuator Level - Raised); Poles: 2; Part Number: A6SN-2104
pins: 1, 2, 3, 4

## A6SN-3104
designator SA?
Switch slide DIP SPST 25MA 24V (Actuator Level - Raised); Poles: 3; Part Number: A6SN-3104
pins: 1, 2, 3, 4, 5, 6

## A6SN-4104
designator SA?
Switch slide DIP SPST 25MA 24V (Actuator Level - Raised); Poles: 4; Part Number: A6SN-4104
pins: 1, 2, 3, 4, 5, 6, 7, 8

## A6SN-5104
designator SA?
Switch slide DIP SPST 25MA 24V (Actuator Level - Raised); Poles: 5; Part Number: A6SN-5104
pins: 1, 2, 3, 4, 5, 6, 7, 8, 9, 10

## A6SN-6104
designator SA?
Switch slide DIP SPST 25MA 24V (Actuator Level - Raised); Poles: 6; Part Number: A6SN-6104
pins: 1, 2, 3, 4, 5, 6, 7, 8, 9, 10, 11, 12

## A6SN-7104
designator SA?
Switch slide DIP SPST 25MA 24V (Actuator Level - Raised); Poles: 7; Part Number: A6SN-7104
pins: 1, 2, 3, 4, 5, 6, 7, 8, 9, 10, 11, 12, 13, 14

## A6SN-8104
designator SA?
Switch slide DIP SPST 25MA 24V (Actuator Level - Raised); Poles: 8; Part Number: A6SN-8104
pins: 1, 2, 3, 4, 5, 6, 7, 8, 9, 10, 11, 12, 13, 14, 15, 16

## A6SN-9104
designator SA?
Switch slide DIP SPST 25MA 24V (Actuator Level - Raised); Poles: 9; Part Number: A6SN-9104
pins: 1, 2, 3, 4, 5, 6, 7, 8, 9, 10, 11, 12, 13, 14, 15, 16, 17, 18


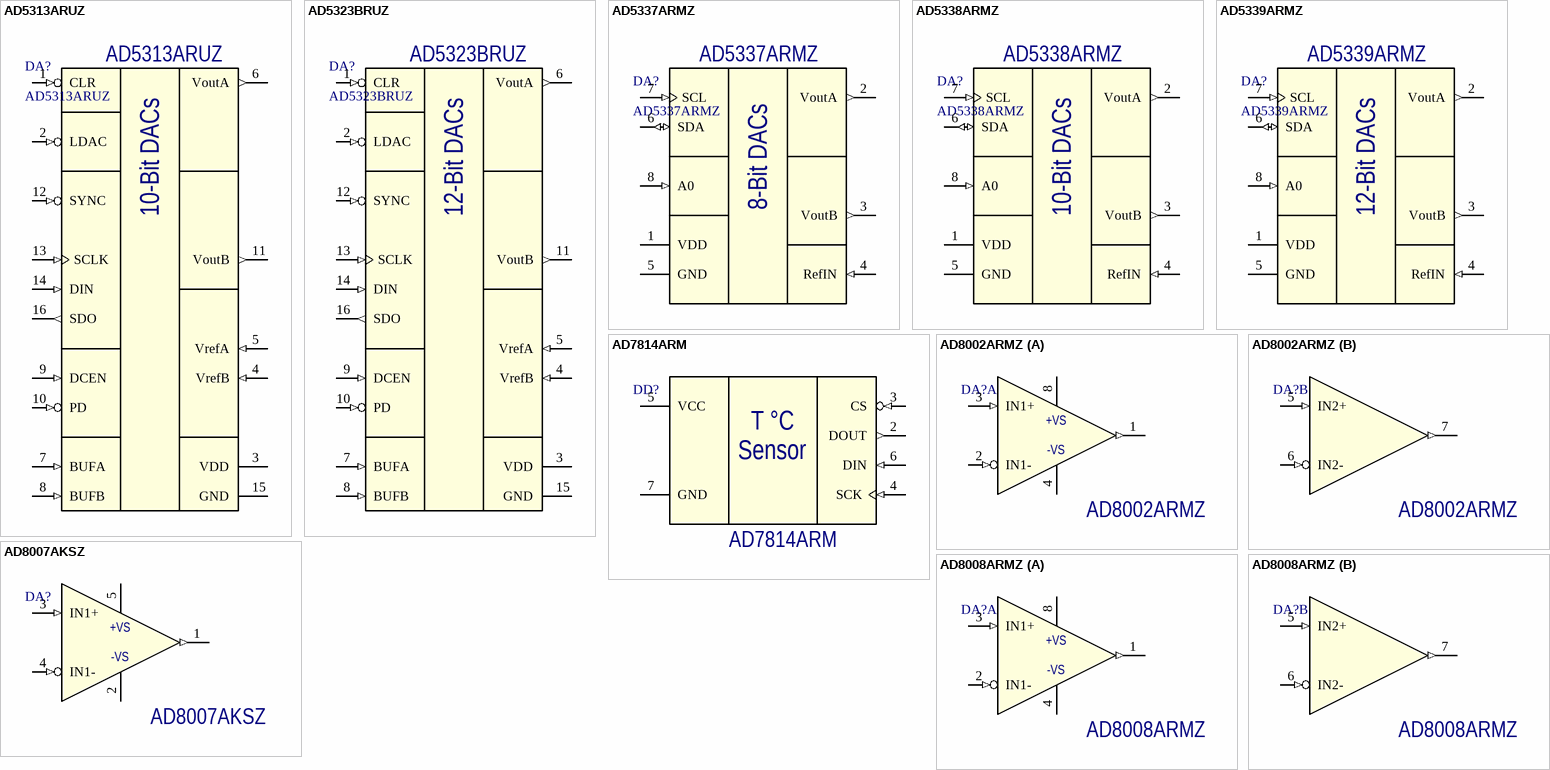
[diagram p16: symbols AD5313ARUZ to AD8008ARMZ]

## AD5313ARUZ
designator DA?
Dual Rail-to-Rail Voltage Output 10-Bit DACs; Package: TSSOP16; Part Number: AD5313ARUZ
pins: 1 CLR (in), 2 LDAC (in), 3 VDD (power), 4 VrefB (in), 5 VrefA (in), 6 VoutA (out), 7 BUFA (in), 8 BUFB (in), 9 DCEN (in), 10 PD (in), 11 VoutB (out), 12 SYNC (in), 13 SCLK (in), 14 DIN (in), 15 GND (power), 16 SDO (out)
text: 10-Bit DACs

## AD5323BRUZ
designator DA?
Dual Rail-to-Rail Voltage Output 12-Bit DACs; Package: TSSOP16; Part Number: AD5323BRUZ
pins: 1 CLR (in), 2 LDAC (in), 3 VDD (power), 4 VrefB (in), 5 VrefA (in), 6 VoutA (out), 7 BUFA (in), 8 BUFB (in), 9 DCEN (in), 10 PD (in), 11 VoutB (out), 12 SYNC (in), 13 SCLK (in), 14 DIN (in), 15 GND (power), 16 SDO (out)
text: 12-Bit DACs

## AD5337ARMZ
designator DA?
Dual Voltage Output, 8-Bit DACs; Package: MSOP-8; Part Number: AD5337ARMZ
pins: 1 VDD (power), 2 VoutA (out), 3 VoutB (out), 4 RefIN (in), 5 GND (power), 6 SDA (io), 7 SCL (in), 8 A0 (in)
text: 8-Bit DACs

## AD5338ARMZ
designator DA?
Dual Voltage Output, 10-Bit DACs; Package: MSOP-8; Part Number: AD5338ARMZ
pins: 1 VDD (power), 2 VoutA (out), 3 VoutB (out), 4 RefIN (in), 5 GND (power), 6 SDA (io), 7 SCL (in), 8 A0 (in)
text: 10-Bit DACs

## AD5339ARMZ
designator DA?
Dual Voltage Output, 12-Bit DACs; Package: MSOP-8; Part Number: AD5339ARMZ
pins: 1 VDD (power), 2 VoutA (out), 3 VoutB (out), 4 RefIN (in), 5 GND (power), 6 SDA (io), 7 SCL (in), 8 A0 (in)
text: 12-Bit DACs

## AD7814ARM
designator DD?
Temperature Sensor; Package: MSOP-8; Part Number: AD7814ARM
pins: 2 DOUT (out), 3 CS (in), 4 SCK (in), 5 VCC (power), 6 DIN (in), 7 GND (power)
text: T °C; Sensor

## AD8002ARMZ
designator DA?
Dual 600 MHz, 50 mW Current Feedback Amplifier; Package: MSOP-8; Part Number: AD8002ARMZ
part A pins: 1 OUT1 (out), 2 IN1- (in), 3 IN1+ (in), 4 VS- (power), 8 VS+ (power)
part B pins: 5 IN2+ (in), 6 IN2- (in), 7 OUT2 (out)
part A text: +VS; -VS

## AD8007AKSZ
designator DA?
Single Ultralow Distortion, High Speed Amplifiers; Package: SC70-5; Part Number: AD8007AKSZ
pins: 1 OUT1 (out), 2 VS- (power), 3 IN1+ (in), 4 IN1- (in), 5 VS+ (power)
text: +VS; -VS

## AD8008ARMZ
designator DA?
Dual Ultralow Distortion, High Speed Amplifiers; Package: MSOP-8; Part Number: AD8008ARMZ
part A pins: 1 OUT1 (out), 2 IN1- (in), 3 IN1+ (in), 4 VS- (power), 8 VS+ (power)
part B pins: 5 IN2+ (in), 6 IN2- (in), 7 OUT2 (out)
part A text: +VS; -VS

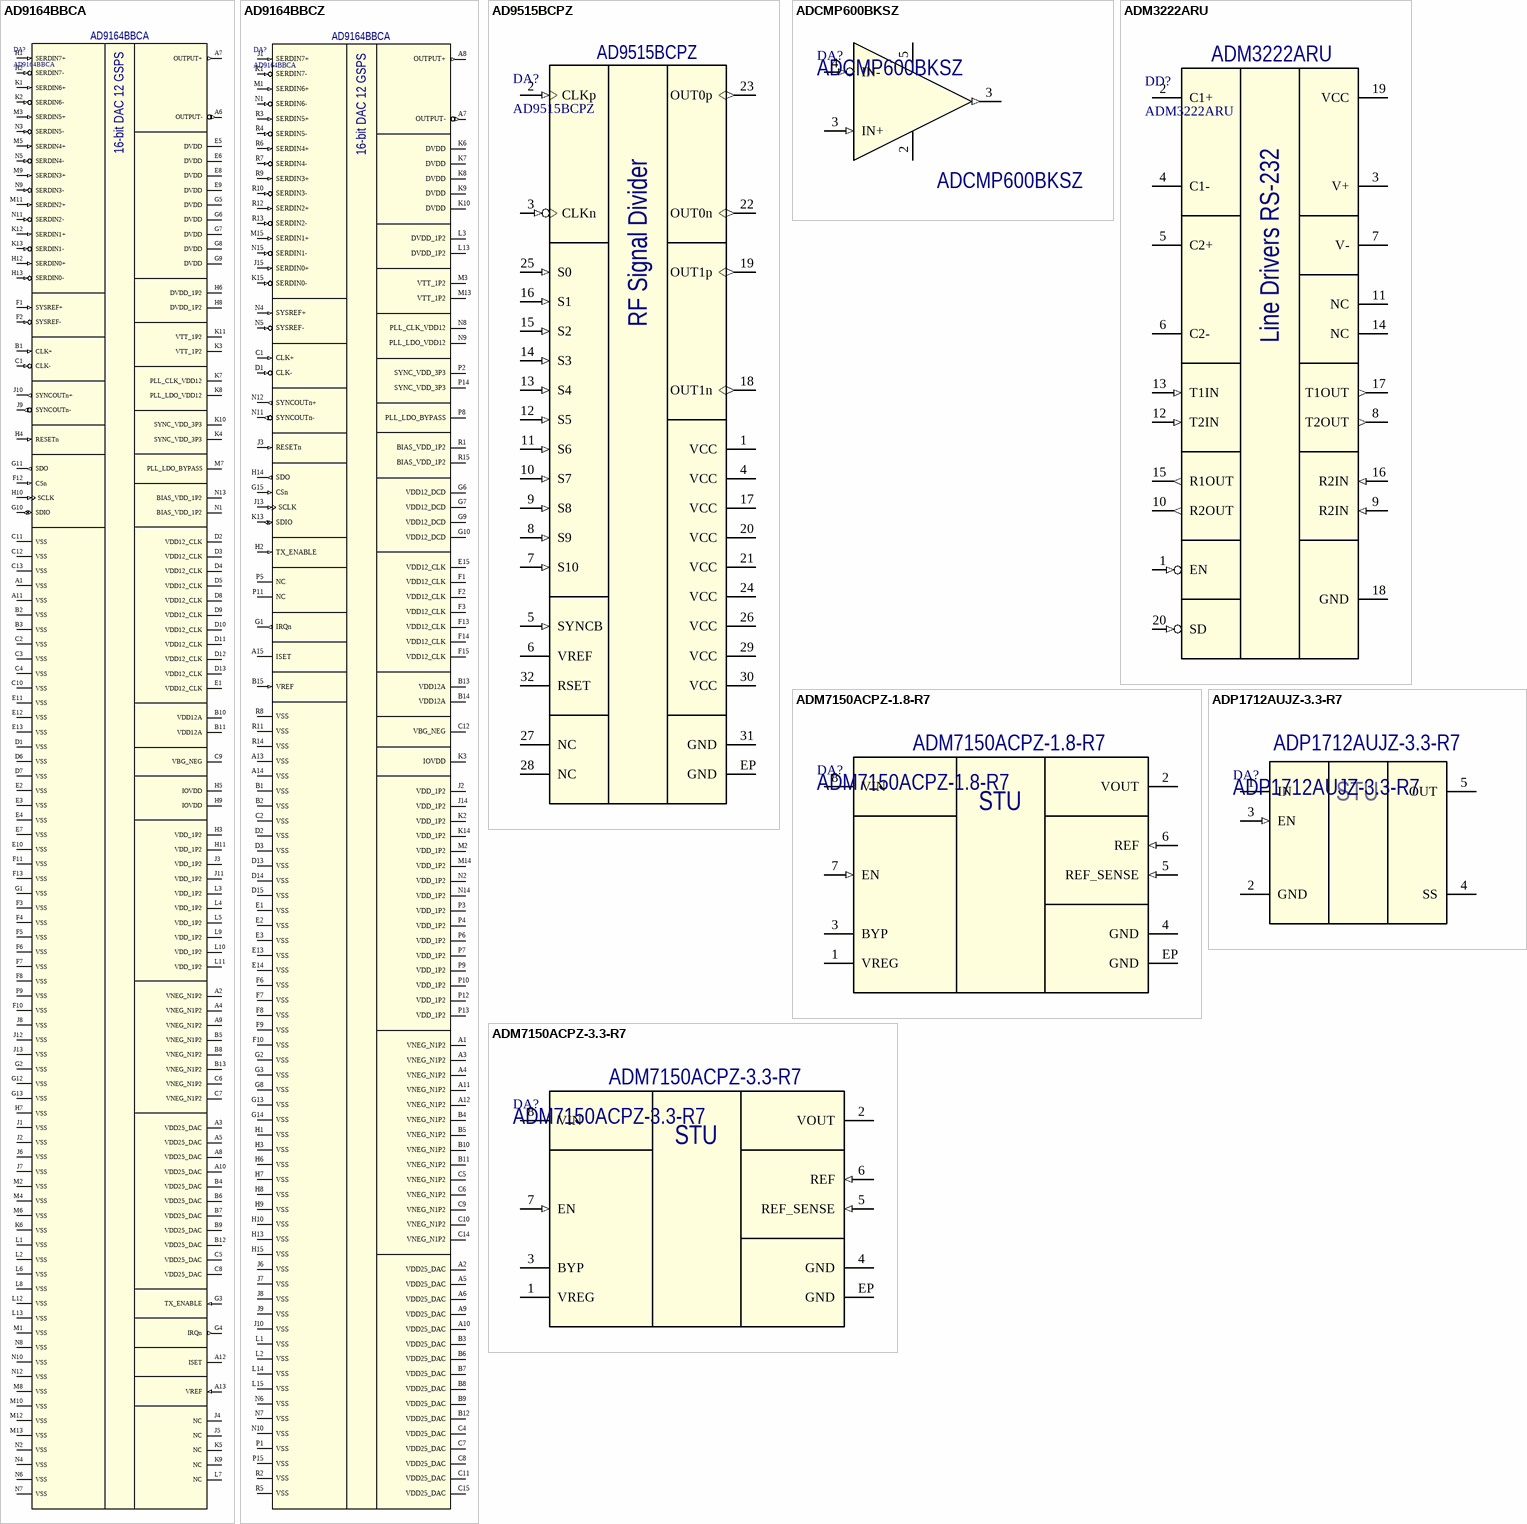
[diagram p17: symbols AD9164BBCA to ADP1712AUJZ-3.3-R7]

## AD9164BBCA
designator DA?
16-Bit RF DAC and DDS; Package: CSPBGA-169 (11x11mm); Part Number: AD9164BBCA
pins: A1 VSS (power), A2 VNEG_N1P2 (power), A3 VDD25_DAC (power), A4 VNEG_N1P2 (power), A5 VDD25_DAC (power), A6 OUTPUT- (out), A7 OUTPUT+ (out), A8 VDD25_DAC (power), A9 VNEG_N1P2 (power), A10 VDD25_DAC (power), A11 VSS (power), A12 ISET, A13 VREF (in), B1 CLK+ (in), B2 VSS (power), B3 VSS (power), B4 VDD25_DAC (power), B5 VNEG_N1P2 (power), B6 VDD25_DAC (power), B7 VDD25_DAC (power), B8 VNEG_N1P2 (power), B9 VDD25_DAC (power), B10 VDD12A (power), B11 VDD12A (power), B12 VDD25_DAC (power), B13 VNEG_N1P2 (power), C1 CLK- (in), C2 VSS (power), C3 VSS (power), C4 VSS (power), C5 VDD25_DAC (power), C6 VNEG_N1P2 (power), C7 VNEG_N1P2 (power), C8 VDD25_DAC (power), C9 VBG_NEG (power), C10 VSS (power), C11 VSS (power), C12 VSS (power), C13 VSS (power), D1 VSS (power), D2 VDD12_CLK (power), D3 VDD12_CLK (power), D4 VDD12_CLK (power), D5 VDD12_CLK (power), D6 VSS (power), D7 VSS (power), D8 VDD12_CLK (power), D9 VDD12_CLK (power), D10 VDD12_CLK (power), D11 VDD12_CLK (power), D12 VDD12_CLK (power), D13 VDD12_CLK (power), E1 VDD12_CLK (power), E2 VSS (power), E3 VSS (power), E4 VSS (power), E5 DVDD (power), E6 DVDD (power), E7 VSS (power), E8 DVDD (power), E9 DVDD (power), E10 VSS (power), E11 VSS (power), E12 VSS (power), E13 VSS (power), F1 SYSREF+ (in), F2 SYSREF- (in), F3 VSS (power), F4 VSS (power), F5 VSS (power), F6 VSS (power), F7 VSS (power), F8 VSS (power), F9 VSS (power), F10 VSS (power), F11 VSS (power), F12 CSn (in), F13 VSS (power), G1 VSS (power), G2 VSS (power), G3 TX_ENABLE (in), G4 IRQn (out), G5 DVDD (power), G6 DVDD (power), G7 DVDD (power), G8 DVDD (power), G9 DVDD (power), G10 SDIO (io), G11 SDO (out), G12 VSS (power), G13 VSS (power), H1 SERDIN7+ (in), H2 SERDIN7- (in), H3 VDD_1P2 (power), H4 RESETn (in), H5 IOVDD (power), H6 DVDD_1P2 (power), H7 VSS (power), H8 DVDD_1P2 (power), H9 IOVDD (power), H10 SCLK (in), H11 VDD_1P2 (power), H12 SERDIN0+ (in), H13 SERDIN0- (in), J1 VSS (power), J2 VSS (power), J3 VDD_1P2 (power), J4 NC (hiz), J5 NC (hiz), J6 VSS (power), J7 VSS (power), J8 VSS (power), J9 SYNCOUTn- (out), J10 SYNCOUTn+ (out), J11 VDD_1P2 (power), J12 VSS (power), J13 VSS (power), K1 SERDIN6+ (in), K2 SERDIN6- (in), K3 VTT_1P2 (power), K4 SYNC_VDD_3P3 (power), K5 NC (hiz), K6 VSS (power), K7 PLL_CLK_VDD12 (power), K8 PLL_LDO_VDD12 (power), K9 NC (hiz), K10 SYNC_VDD_3P3 (power), K11 VTT_1P2 (power), K12 SERDIN1+ (in), K13 SERDIN1- (in), L1 VSS (power), L2 VSS (power), L3 VDD_1P2 (power), L4 VDD_1P2 (power), L5 VDD_1P2 (power), L6 VSS (power), L7 NC (hiz), L8 VSS (power), L9 VDD_1P2 (power), L10 VDD_1P2 (power), L11 VDD_1P2 (power), L12 VSS (power), L13 VSS (power), M1 VSS (power), M2 VSS (power), M3 SERDIN5+ (in), M4 VSS (power), M5 SERDIN4+ (in), M6 VSS (power), M7 PLL_LDO_BYPASS (power), M8 VSS (power), M9 SERDIN3+ (in), M10 VSS (power), M11 SERDIN2+ (in), M12 VSS (power), M13 VSS (power), N1 BIAS_VDD_1P2 (power), N2 VSS (power), N3 SERDIN5- (in), N4 VSS (power), N5 SERDIN4- (in), N6 VSS (power), N7 VSS (power), N8 VSS (power), N9 SERDIN3- (in), N10 VSS (power), N11 SERDIN2- (in), N12 VSS (power), N13 BIAS_VDD_1P2 (power)
text: 16-bit DAC 12 GSPS

## AD9164BBCZ
designator DA?, comment AD9164BBCA
16-Bit RF DAC and DDS; Package: CSPBGA-165 (8x8mm); Part Number: AD9164BBCA
pins: A1 VNEG_N1P2 (power), A2 VDD25_DAC (power), A3 VNEG_N1P2 (power), A4 VNEG_N1P2 (power), A5 VDD25_DAC (power), A6 VDD25_DAC (power), A7 OUTPUT- (out), A8 OUTPUT+ (out), A9 VDD25_DAC (power), A10 VDD25_DAC (power), A11 VNEG_N1P2 (power), A12 VNEG_N1P2 (power), A13 VSS (power), A14 VSS (power), A15 ISET, B1 VSS (power), B2 VSS (power), B3 VDD25_DAC (power), B4 VNEG_N1P2 (power), B5 VNEG_N1P2 (power), B6 VDD25_DAC (power), B7 VDD25_DAC (power), B8 VDD25_DAC (power), B9 VDD25_DAC (power), B10 VNEG_N1P2 (power), B11 VNEG_N1P2 (power), B12 VDD25_DAC (power), B13 VDD12A (power), B14 VDD12A (power), B15 VREF (in), C1 CLK+ (in), C2 VSS (power), C4 VDD25_DAC (power), C5 VNEG_N1P2 (power), C6 VNEG_N1P2 (power), C7 VDD25_DAC (power), C8 VDD25_DAC (power), C9 VNEG_N1P2 (power), C10 VNEG_N1P2 (power), C11 VDD25_DAC (power), C12 VBG_NEG (power), C14 VNEG_N1P2 (power), C15 VDD25_DAC (power), D1 CLK- (in), D2 VSS (power), D3 VSS (power), D13 VSS (power), D14 VSS (power), D15 VSS (power), E1 VSS (power), E2 VSS (power), E3 VSS (power), E13 VSS (power), E14 VSS (power), E15 VDD12_CLK (power), F1 VDD12_CLK (power), F2 VDD12_CLK (power), F3 VDD12_CLK (power), F6 VSS (power), F7 VSS (power), F8 VSS (power), F9 VSS (power), F10 VSS (power), F13 VDD12_CLK (power), F14 VDD12_CLK (power), F15 VDD12_CLK (power), G1 IRQn (out), G2 VSS (power), G3 VSS (power), G6 VDD12_DCD (power), G7 VDD12_DCD (power), G8 VSS (power), G9 VDD12_DCD (power), G10 VDD12_DCD (power), G13 VSS (power), G14 VSS (power), G15 CSn (in), H1 VSS (power), H2 TX_ENABLE (in), H3 VSS (power), H6 VSS (power), H7 VSS (power), H8 VSS (power), H9 VSS (power), H10 VSS (power), H13 VSS (power), H14 SDO (out), H15 VSS (power), J1 SERDIN7+ (in), J2 VDD_1P2 (power), J3 RESETn (in), J6 VSS (power), J7 VSS (power), J8 VSS (power), J9 VSS (power), J10 VSS (power), J13 SCLK (in), J14 VDD_1P2 (power), J15 SERDIN0+ (in), K1 SERDIN7- (in), K2 VDD_1P2 (power), K3 IOVDD (power), K6 DVDD (power), K7 DVDD (power), K8 DVDD (power), K9 DVDD (power), K10 DVDD (power), K13 SDIO (io), K14 VDD_1P2 (power), K15 SERDIN0- (in), L1 VSS (power), L2 VSS (power), L3 DVDD_1P2 (power), L13 DVDD_1P2 (power), L14 VSS (power), L15 VSS (power), M1 SERDIN6+ (in), M2 VDD_1P2 (power), M3 VTT_1P2 (power), M13 VTT_1P2 (power), M14 VDD_1P2 (power), M15 SERDIN1+ (in), N1 SERDIN6- (in), N2 VDD_1P2 (power), N4 SYSREF+ (in), N5 SYSREF- (in), N6 VSS (power), N7 VSS (power), N8 PLL_CLK_VDD12 (power), N9 PLL_LDO_VDD12 (power), N10 VSS (power), N11 SYNCOUTn- (out), N12 SYNCOUTn+ (out), N14 VDD_1P2 (power), N15 SERDIN1- (in), P1 VSS (power), P2 SYNC_VDD_3P3 (power), P3 VDD_1P2 (power), P4 VDD_1P2 (power), P5 NC (hiz), P6 VDD_1P2 (power), P7 VDD_1P2 (power), P8 PLL_LDO_BYPASS (power), P9 VDD_1P2 (power), P10 VDD_1P2 (power), P11 NC (hiz), P12 VDD_1P2 (power), P13 VDD_1P2 (power), P14 SYNC_VDD_3P3 (power), P15 VSS (power), R1 BIAS_VDD_1P2 (power), R2 VSS (power), R3 SERDIN5+ (in), R4 SERDIN5- (in), R5 VSS (power), R6 SERDIN4+ (in), R7 SERDIN4- (in), R8 VSS (power), R9 SERDIN3+ (in), R10 SERDIN3- (in), R11 VSS (power), R12 SERDIN2+ (in), R13 SERDIN2- (in), R14 VSS (power), R15 BIAS_VDD_1P2 (power)
text: 16-bit DAC 12 GSPS

## AD9515BCPZ
designator DA?
RF clock divider; Package: LFCSP-32; Part Number: AD9515BCPZ
pins: 1 VCC (power), 2 CLKp (in), 3 CLKn (in), 4 VCC (power), 5 SYNCB (in), 6 VREF, 7 S10 (in), 8 S9 (in), 9 S8 (in), 10 S7 (in), 11 S6 (in), 12 S5 (in), 13 S4 (in), 14 S3 (in), 15 S2 (in), 16 S1 (in), 17 VCC (power), 18 OUT1n (out), 19 OUT1p (out), 20 VCC (power), 21 VCC (power), 22 OUT0n (out), 23 OUT0p (out), 24 VCC (power), 25 S0 (in), 26 VCC (power), 27 NC, 28 NC, 29 VCC (power), 30 VCC (power), 31 GND (power), 32 RSET, EP GND (power)
text: RF Signal Divider

## ADCMP600BKSZ
designator DA?
Analog comparator; Package: SC70-5; Part Number: ADCMP600BKSZ
pins: 2 GND (power), 3 IN+ (in), 3 OUT (out), 4 IN- (in), 5 VCC (power)

## ADM3222ARU
designator DD?
RS-232 Driver; Package: TSSOP20; Part Number: ADM3222ARU
pins: 1 EN (in), 2 C1+, 3 V+ (power), 4 C1-, 5 C2+, 6 C2-, 7 V- (power), 8 T2OUT (out), 9 R2IN (in), 10 R2OUT (out), 11 NC, 12 T2IN (in), 13 T1IN (in), 14 NC, 15 R1OUT (out), 16 R2IN (in), 17 T1OUT (out), 18 GND (power), 19 VCC (power), 20 SD (in)
text: Line Drivers RS-232

## ADM7150ACPZ-1.8-R7
designator DA?
LDO Vout=1.8V; Package: LFCSP-8; Part Number: ADM7150ACPZ-1.8-R7
pins: 1 VREG, 2 VOUT (power), 3 BYP, 4 GND (power), 5 REF_SENSE (in), 6 REF (in), 7 EN (in), 8 VIN (power), EP GND (power)
text: STU

## ADM7150ACPZ-3.3-R7
designator DA?
LDO Vout=3.3V; Package: LFCSP-8; Part Number: ADM7150ACPZ-3.3-R7
pins: 1 VREG, 2 VOUT (power), 3 BYP, 4 GND (power), 5 REF_SENSE (in), 6 REF (in), 7 EN (in), 8 VIN (power), EP GND (power)
text: STU

## ADP1712AUJZ-3.3-R7
designator DA?
LDO with Fixed Output Voltage and Soft-Start Capacitor; Package: SOT-23-5; Part Number: ADP1712AUJZ-3.3-R7
pins: 1 IN (power), 2 GND (power), 3 EN (in), 4 SS, 5 OUT (power)
text: STU

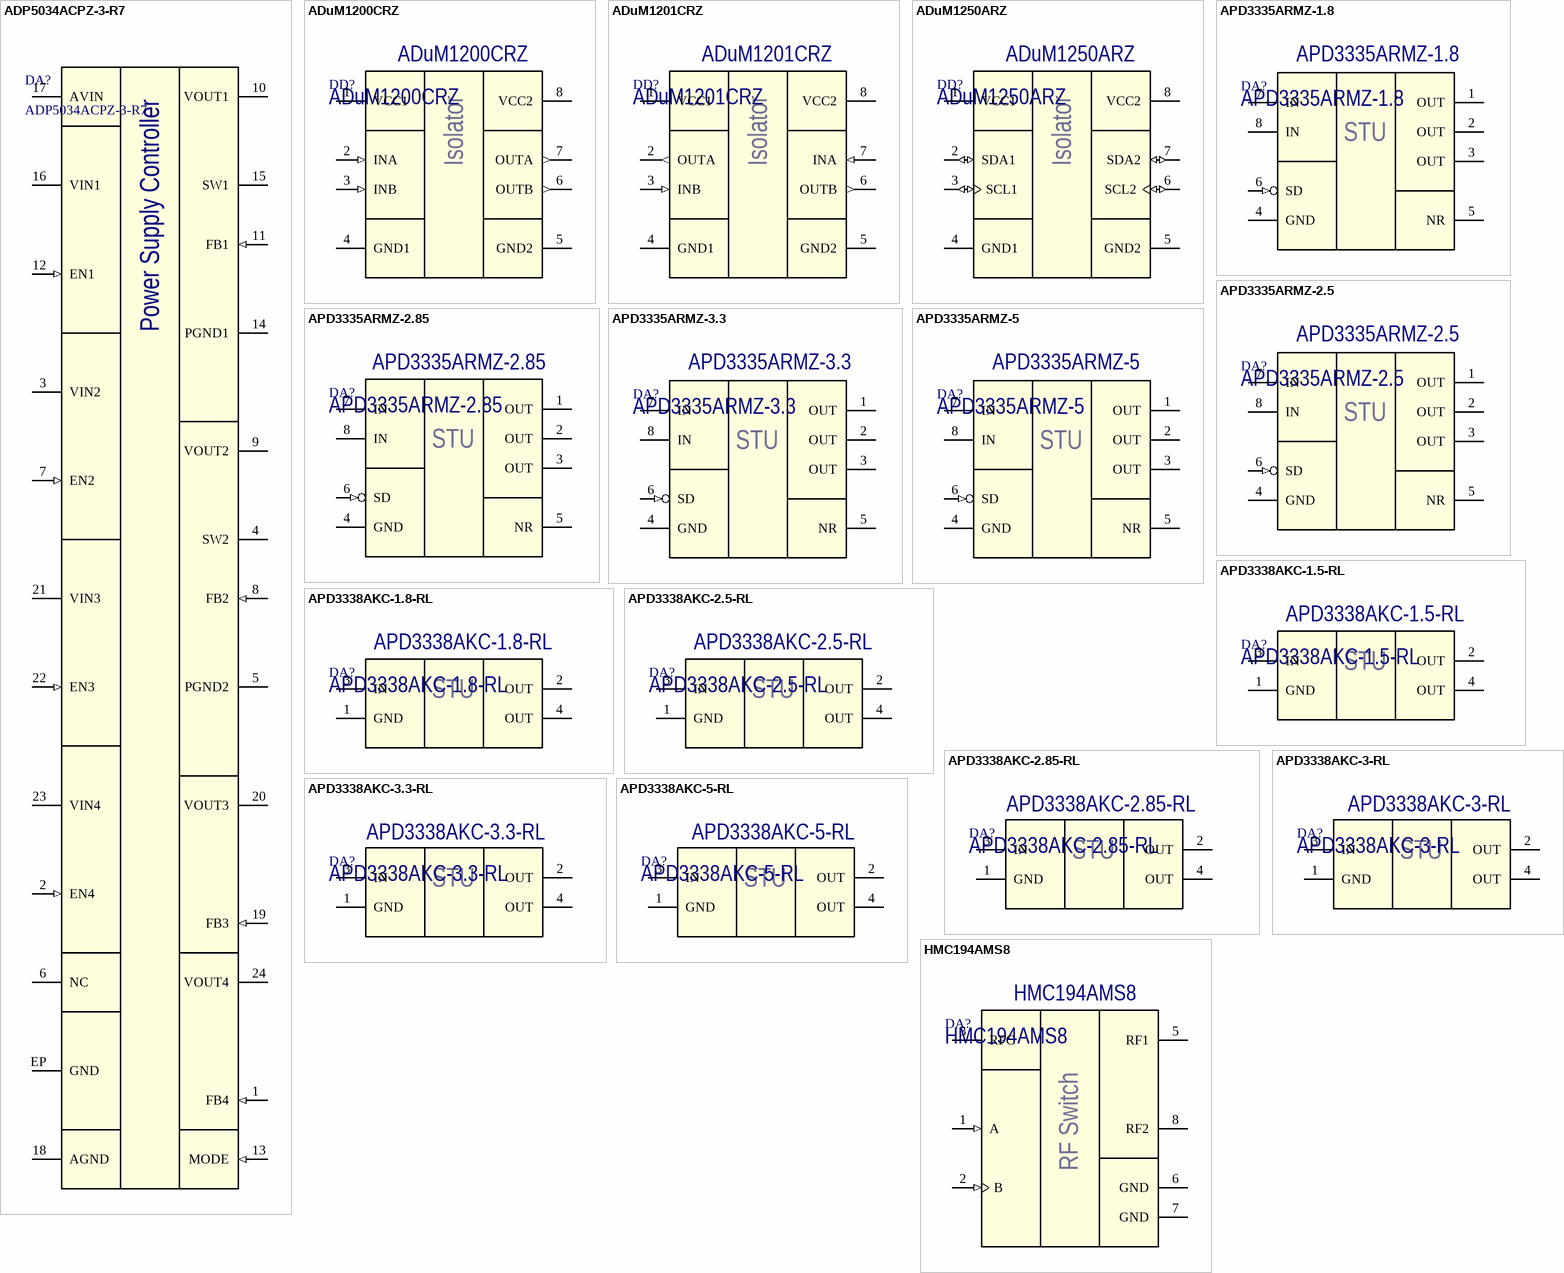
[diagram p18: symbols ADP5034ACPZ-3-R7 to HMC194AMS8]

## ADP5034ACPZ-3-R7
designator DA?
Dual 3 MHz, 1200 mA Buck Regulator with Two 300 mA LDOs; Package: LFCSP-24; Part Number: ADP5034ACPZ-3-R7
pins: 1 FB4 (in), 2 EN4 (in), 3 VIN2 (power), 4 SW2 (power), 5 PGND2 (power), 6 NC (hiz), 7 EN2 (in), 8 FB2 (in), 9 VOUT2 (power), 10 VOUT1 (power), 11 FB1 (in), 12 EN1 (in), 13 MODE (in), 14 PGND1 (power), 15 SW1 (power), 16 VIN1 (power), 17 AVIN (power), 18 AGND (power), 19 FB3 (in), 20 VOUT3 (power), 21 VIN3 (power), 22 EN3 (in), 23 VIN4 (power), 24 VOUT4 (power), EP GND (power)
text: Power Supply Controller

## ADuM1200CRZ
designator DD?
Dual-Channel Digital Isolators; Package: SOIC8; Part Number: ADuM1200CRZ
pins: 1 VCC1 (power), 2 INA (in), 3 INB (in), 4 GND1 (power), 5 GND2 (power), 6 OUTB (out), 7 OUTA (out), 8 VCC2 (power)
text: Isolator

## ADuM1201CRZ
designator DD?
Dual-Channel Digital Isolators; Package: SOIC8; Part Number: ADuM1201CRZ
pins: 1 VCC1 (power), 2 OUTA (out), 3 INB (in), 4 GND1 (power), 5 GND2 (power), 6 OUTB (out), 7 INA (in), 8 VCC2 (power)
text: Isolator

## ADuM1250ARZ
designator DD?
Dual-Channel Digital Isolators; Package: SOIC8; Part Number: ADuM1250ARZ
pins: 1 VCC1 (power), 2 SDA1 (io), 3 SCL1 (io), 4 GND1 (power), 5 GND2 (power), 6 SCL2 (io), 7 SDA2 (io), 8 VCC2 (power)
text: Isolator

## APD3335ARMZ-1.8
designator DA?
LDO Vout=1.8V; Package: MSOP-8; Part Number: APD3335ARMZ-1.8
pins: 1 OUT (power), 2 OUT (power), 3 OUT (power), 4 GND (power), 5 NR, 6 SD (in), 7 IN (power), 8 IN (power)
text: STU

## APD3335ARMZ-2.5
designator DA?
LDO Vout=2.5V; Package: MSOP-8; Part Number: APD3335ARMZ-2.5
pins: 1 OUT (power), 2 OUT (power), 3 OUT (power), 4 GND (power), 5 NR, 6 SD (in), 7 IN (power), 8 IN (power)
text: STU

## APD3335ARMZ-2.85
designator DA?
LDO Vout=2.85V; Package: MSOP-8; Part Number: APD3335ARMZ-2.85
pins: 1 OUT (power), 2 OUT (power), 3 OUT (power), 4 GND (power), 5 NR, 6 SD (in), 7 IN (power), 8 IN (power)
text: STU

## APD3335ARMZ-3.3
designator DA?
LDO Vout=3.3V; Package: MSOP-8; Part Number: APD3335ARMZ-3.3
pins: 1 OUT (power), 2 OUT (power), 3 OUT (power), 4 GND (power), 5 NR, 6 SD (in), 7 IN (power), 8 IN (power)
text: STU

## APD3335ARMZ-5
designator DA?
LDO Vout=5V; Package: MSOP-8; Part Number: APD3335ARMZ-5
pins: 1 OUT (power), 2 OUT (power), 3 OUT (power), 4 GND (power), 5 NR, 6 SD (in), 7 IN (power), 8 IN (power)
text: STU

## APD3338AKC-1.5-RL
designator DA?
LDO Vout=1.5V; Package: SOT223; Part Number: APD3338AKC-1.5-RL
pins: 1 GND (power), 2 OUT (power), 3 IN (power), 4 OUT (power)
text: STU

## APD3338AKC-1.8-RL
designator DA?
LDO Vout=1.8V; Package: SOT223; Part Number: APD3338AKC-1.8-RL
pins: 1 GND (power), 2 OUT (power), 3 IN (power), 4 OUT (power)
text: STU

## APD3338AKC-2.5-RL
designator DA?
LDO Vout=2.5V; Package: SOT223; Part Number: APD3338AKC-2.5-RL
pins: 1 GND (power), 2 OUT (power), 3 IN (power), 4 OUT (power)
text: STU

## APD3338AKC-2.85-RL
designator DA?
LDO Vout=2.85V; Package: SOT223; Part Number: APD3338AKC-2.85-RL
pins: 1 GND (power), 2 OUT (power), 3 IN (power), 4 OUT (power)
text: STU

## APD3338AKC-3-RL
designator DA?
LDO Vout=3V; Package: SOT223; Part Number: APD3338AKC-3-RL
pins: 1 GND (power), 2 OUT (power), 3 IN (power), 4 OUT (power)
text: STU

## APD3338AKC-3.3-RL
designator DA?
LDO Vout=3.3V; Package: SOT223; Part Number: APD3338AKC-3.3-RL
pins: 1 GND (power), 2 OUT (power), 3 IN (power), 4 OUT (power)
text: STU

## APD3338AKC-5-RL
designator DA?
LDO Vout=5V; Package: SOT223; Part Number: APD3338AKC-5-RL
pins: 1 GND (power), 2 OUT (power), 3 IN (power), 4 OUT (power)
text: STU

## HMC194AMS8
designator DA?
RF switch; Package: MSOP-8; Part Number: HMC194AMS8
pins: 1 A (in), 2 B (in), 3 RFC, 5 RF1, 6 GND (power), 7 GND (power), 8 RF2
text: RF Switch

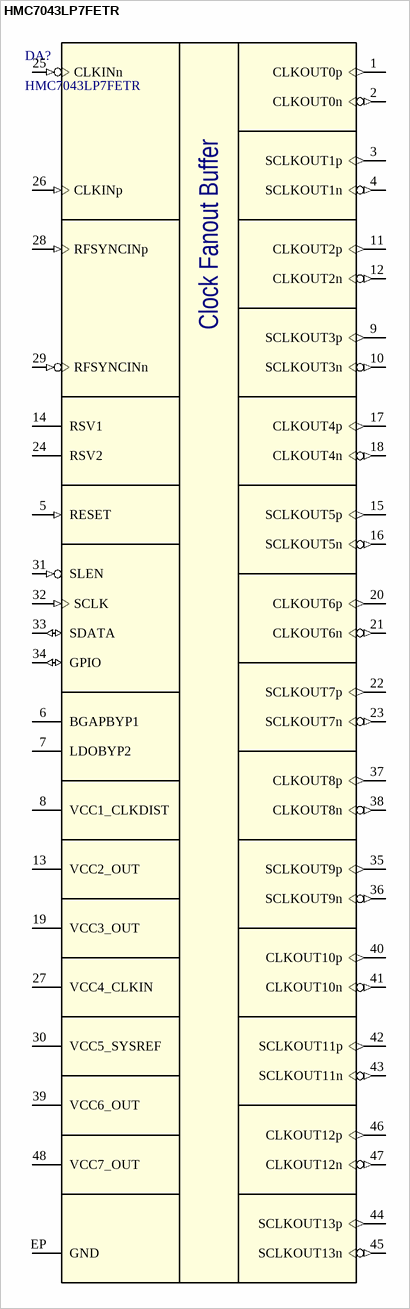
[diagram p19: symbol HMC7043LP7FETR]

## HMC7043LP7FETR
designator DA?
High Performance, 3.2 GHz, 14-Output Fanout Buffer; Part Nubmer: HMC7043LP7FETR; Package: LFCSP-48 (7mm x 7mm x 0.9mm)
pins: 1 CLKOUT0p (out), 2 CLKOUT0n (out), 3 SCLKOUT1p (out), 4 SCLKOUT1n (out), 5 RESET (in), 6 BGAPBYP1, 7 LDOBYP2, 8 VCC1_CLKDIST (power), 9 SCLKOUT3p (out), 10 SCLKOUT3n (out), 11 CLKOUT2p (out), 12 CLKOUT2n (out), 13 VCC2_OUT (power), 14 RSV1 (hiz), 15 SCLKOUT5p (out), 16 SCLKOUT5n (out), 17 CLKOUT4p (out), 18 CLKOUT4n (out), 19 VCC3_OUT (power), 20 CLKOUT6p (out), 21 CLKOUT6n (out), 22 SCLKOUT7p (out), 23 SCLKOUT7n (out), 24 RSV2 (hiz), 25 CLKINn (in), 26 CLKINp (in), 27 VCC4_CLKIN (power), 28 RFSYNCINp (in), 29 RFSYNCINn (in), 30 VCC5_SYSREF (power), 31 SLEN (in), 32 SCLK (in), 33 SDATA (io), 34 GPIO (io), 35 SCLKOUT9p (out), 36 SCLKOUT9n (out), 37 CLKOUT8p (out), 38 CLKOUT8n (out), 39 VCC6_OUT (power), 40 CLKOUT10p (out), 41 CLKOUT10n (out), 42 SCLKOUT11p (out), 43 SCLKOUT11n (out), 44 SCLKOUT13p (out), 45 SCLKOUT13n (out), 46 CLKOUT12p (out), 47 CLKOUT12n (out), 48 VCC7_OUT (power), EP GND (power)
text: Clock Fanout Buffer


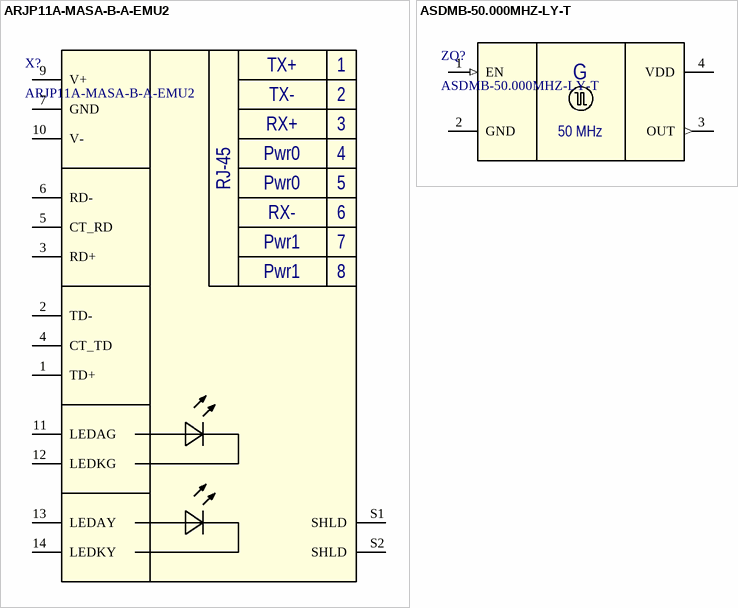
[diagram p20: symbols ARJP11A-MASA-B-A-EMU2 to ASDMB-50.000MHZ-LY-T]

## ARJP11A-MASA-B-A-EMU2
designator X?
Connector, RJ-45 with integrated magnetics, Gold, R/A, TH; Part Number: ARJP11A-MASA-B-A-EMU2
pins: 1 TD+, 2 TD-, 3 RD+, 4 CT_TD, 5 CT_RD, 6 RD-, 7 GND, 9 V+ (power), 10 V- (power), 11 LEDAG, 12 LEDKG, 13 LEDAY, 14 LEDKY, S1 SHLD, S2 SHLD
text: TX+; TX-; RX+; Pwr0; RJ-45; RX-; Pwr1; 8

## ASDMB-50.000MHZ-LY-T
designator ZQ?
Clock Oscillator with LVCMOS output (Frequency Stability ±10ppm); PartNumber: ASDMB-50.000MHZ-LY-T; Package: SMD2520
pins: 1 EN (in), 2 GND (power), 3 OUT (out), 4 VDD (power)
text: G; 50 MHz


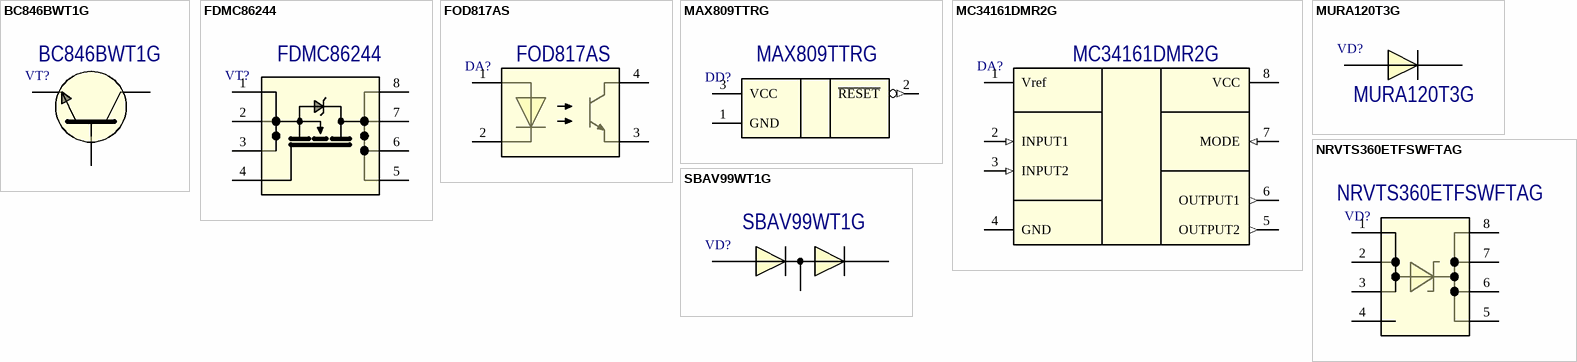
[diagram p21: symbols BC846BWT1G to SBAV99WT1G]

## BC846BWT1G
designator VT?
General Purpose n-p-n Transistors; Package: SC70-3; Part Number: BC846BWT1G
pins: 1 B, 2 E, 3 C

## FDMC86244
designator VT?
N-channel MOSFET, 150V, 9.4A, 134 mOhm; Package: MLP (3.3 x 3.3 mm); Part Number: FDMC86244
pins: 1 S, 2 S, 3 S, 4 G, 5 D, 6 D, 7 D, 8 D

## FOD817AS
designator DA?
Optoisolator 5kV transistor; Package: 4-SMD (4.1 x 9.86 mm); Part Number: FOD817AS
pins: 1 ANODE, 2 CATHODE (power), 3 EMITTER, 4 COLLECTOR

## MAX809TTRG
designator DD?
Reset Monitors; Package: SOT23-3; Part Number: MAX809TTRG
pins: 1 GND (power), 2 ~{RESET} (out), 3 VCC (power)

## MC34161DMR2G
designator DA?
Universal Voltage Monitors; Package: Micro8 (3x3mm); Part Number: MC34161DMR2G
pins: 1 Vref (power), 2 INPUT1 (in), 3 INPUT2 (in), 4 GND (power), 5 OUTPUT2 (out), 6 OUTPUT1 (out), 7 MODE (in), 8 VCC (power)

## MURA120T3G
designator VD?
Ultrafast Power Rectifiers 200V, 2A, ttr = 35ns; Package: DO-214AC, SMA; Part Number: MURA120T3G
pins: 1 ANODE, 2 CATHODE (power)

## NRVTS360ETFSWFTAG
designator VD?
Schottky diodes 3A, 60V; Package: 8-WDFN (3.3x3.3); Part Number: NRVTS360ETFSWFTAG
pins: 1, 2, 3, 4, 5, 6, 7, 8

## SBAV99WT1G
designator VD?
Diode array 100V, 215MA; Package: SC-70-3; Part Number: SBAV99WT1G
pins: 1 ANODE, 2 CATHODE (power), 3 CENTR (power)


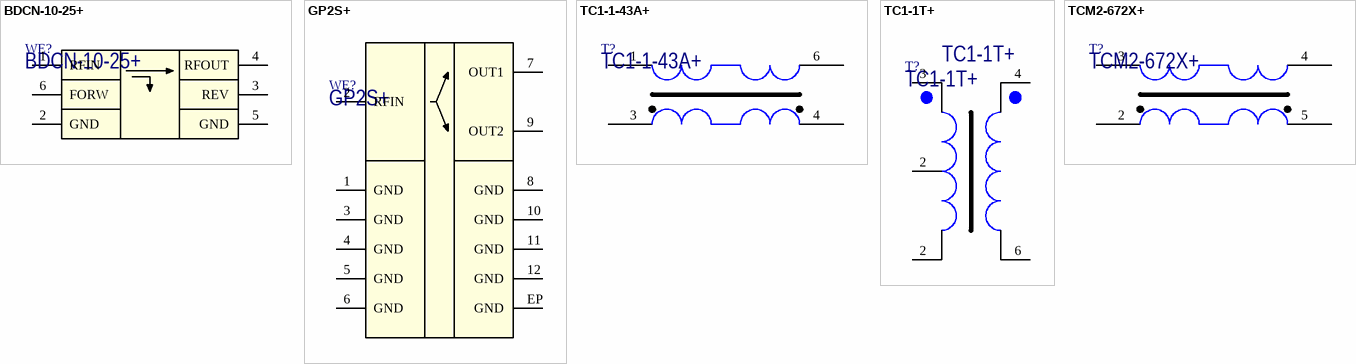
[diagram p22: symbols BDCN-10-25+ to TCM2-672X+]

## BDCN-10-25+
designator WE?
50Ω Bi-Directional Coupler 824 to 2525 MHz; Part Number: BDCN-10-25+; Package: FV1206-1
pins: 1 RFIN, 2 GND (power), 3 REV, 4 RFOUT, 5 GND (power), 6 FORW

## GP2S+
designator WE?
2 Way-0° 50Ω Power Splitter/Combiner  800 to 2100 MHz; Part Number: GP2S+; Package: DQ1225
pins: 1 GND (power), 2 RFIN, 3 GND (power), 4 GND (power), 5 GND (power), 6 GND (power), 7 OUT1, 8 GND (power), 9 OUT2, 10 GND (power), 11 GND (power), 12 GND (power), EP GND (power)

## TC1-1-43A+
designator T?
50Ω RF Transformer 650 to 4000 MHz; Part Number: TC1-1-43A+; Package: AT224-1A
pins: 1, 3, 4, 6

## TC1-1T+
designator T?
50Ω RF Transformer 0.4 to 500 MHz; Package: AT224-1A; Part Number: TC1-1T+
pins: 2 Centr, 2 PRIn, 3 PRIp, 4 SECp, 6 SECn

## TCM2-672X+
designator T?
50Ω RF Transformer 1700 to 6000 MHz; Case style: DB1627; Part Number: TCM2-672X+; Package: AT224-1A
pins: 2, 3, 4, 5


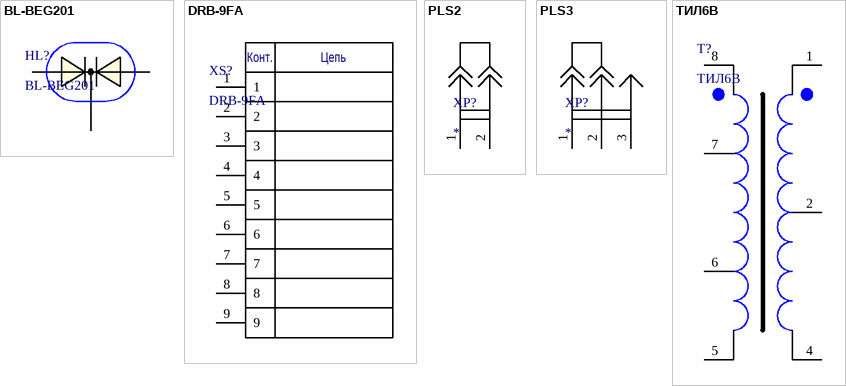
[diagram p23: symbols BL-BEG201 to ТИЛ6В]

## BL-BEG201
designator HL?
Part Number: BL-BEG201
pins: 1, 2, 3

## DRB-9FA
designator XS?
PartNumber: DRB-9FA
pins: 1, 2, 3, 4, 5, 6, 7, 8, 9
text: Конт.; Цепь

## PLS2
designator XP?
Value: PLS2
pins: 1, 2

## PLS3
designator XP?
Value: PLS3
pins: 1, 2, 3

## ТИЛ6В
designator T?
Трансформатор для канала связи ГОСТ Р 52070-2003; PartNumber: ТИЛ6В
pins: 1, 2, 4, 5, 6, 7, 8


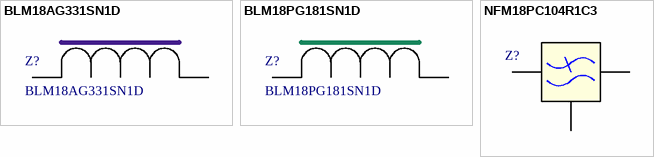
[diagram p24: symbols BLM18AG331SN1D to NFM18PC104R1C3]

## BLM18AG331SN1D
designator Z?
Power line filter, imperdance 330 Ohm (current 05A); Part Number: BLM18AG331SN1D; Package: 0603
pins: 1, 2

## BLM18PG181SN1D
designator Z?
Power line filter, imperdance 180 Ohm (current 1.5A); Part Number: BLM18PG181SN1D; Package: 0603
pins: 1, 2

## NFM18PC104R1C3
designator Z?  (value not drawn)
Terminal Filter Capacitors 16VDC 2A; Part Number: NFM18PC104R1C3
pins: 1 IN, 2 OUT, 3 GND


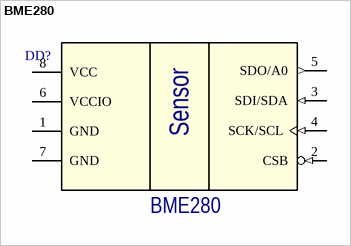
[diagram p25: symbol BME280]

## BME280
designator DD?
Temperature, Humidity, Pressure Sensor; Package: LGA8-2.5; Part Number: BME280
pins: 1 GND (power), 2 CSB (in), 3 SDI/SDA (in), 4 SCK/SCL (in), 5 SDO/A0 (out), 6 VCCIO (power), 7 GND (power), 8 VCC (power)
text: Sensor


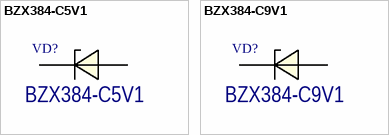
[diagram p26: symbols BZX384-C5V1 to BZX384-C9V1]

## BZX384-C5V1
designator VD?
Voltage regulator diodes 5.1V; Package: SC-76; Part Number: BZX384-C5V1
pins: 1, 2

## BZX384-C9V1
designator VD?
Voltage regulator diodes 9.1V; Package: SC-76; Part Number: BZX384-C9V1
pins: 1, 2


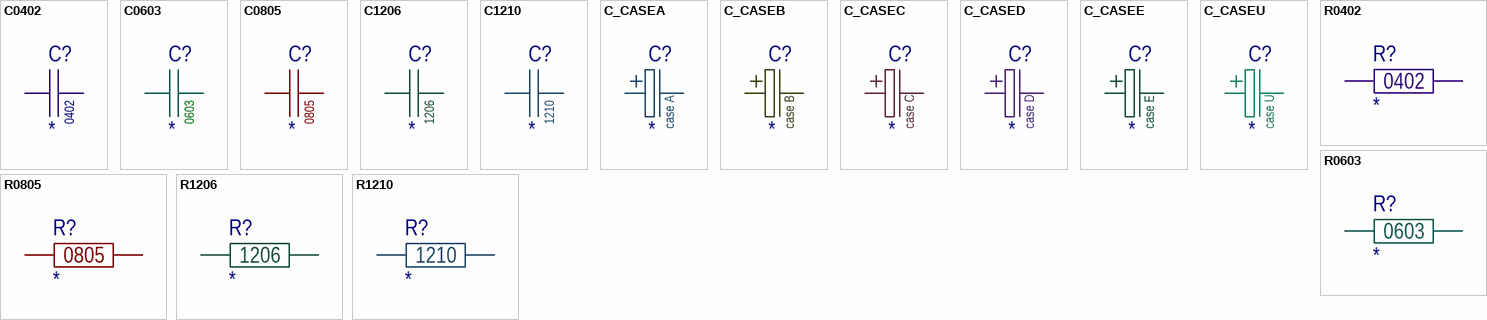
[diagram p27: symbols C0402 to R1210]

## C0402
designator C?  Package: 0402
Capacitors 0402 package case; Tolerance: ± * %; Voltage: * В; Value: *; Dielectric: *; Value on schem: *
pins: 1, 2

## C0603
designator C?  Package: 0603
Capacitors 0603 package case; Tolerance: ± * %; Voltage: * В; Value: *; Dielectric: *; Value on schem: *
pins: 1, 2

## C0805
designator C?  Package: 0805
Capacitors 0805 package case; Tolerance: ± * %; Voltage: * В; Value: *; Dielectric: *; Value on schem: *
pins: 1, 2

## C1206
designator C?  Package: 1206
Capacitors 1206 package case; Tolerance: ± * %; Voltage: * В; Value: *; Dielectric: *; Value on schem: *
pins: 1, 2

## C1210
designator C?  Package: 1210
Capacitors 1210 package case; Tolerance: ± * %; Voltage: * В; Value: *; Dielectric: *; Value on schem: *
pins: 1, 2

## C_CASEA
designator C?  Package: case A
Tantalum capacitors case A; Tolerance: ± * %; Voltage: * В; Value: *; Dielectric: *; Value on schem: *
pins: 1, 2

## C_CASEB
designator C?  Package: case B
Tantalum capacitors case B; Tolerance: ± * %; Voltage: * В; Value: *; Dielectric: *; Value on schem: *
pins: 1, 2

## C_CASEC
designator C?  Package: case C
Tantalum capacitors case C; Tolerance: ± * %; Voltage: * В; Value: *; Dielectric: *; Value on schem: *
pins: 1, 2

## C_CASED
designator C?  Package: case D
Tantalum capacitors case D; Tolerance: ± * %; Voltage: * В; Value: *; Dielectric: *; Value on schem: *
pins: 1, 2

## C_CASEE
designator C?  Package: case E
Tantalum capacitors case E; Tolerance: ± * %; Voltage: * В; Value: *; Dielectric: *; Value on schem: *
pins: 1, 2

## C_CASEU
designator C?  Package: case U
Tantalum capacitors case U (low profile); Tolerance: ± * %; Voltage: * В; Value: *; Dielectric: *; Value on schem: *
pins: 1, 2

## R0402
designator R?  Package: 0402
Resistor 0402 package case; Value: * Ом; Tolerance: ±  %; Power Dissipation: Вт; Value on schem: *
pins: 1, 2

## R0603
designator R?  Package: 0603
Resistor 0603 package case; Value: * Ом; Tolerance: ±  %; Power Dissipation: Вт; Value on schem: *
pins: 1, 2

## R0805
designator R?  Package: 0805
Resistor 0805 package case; Value: * Ом; Tolerance: ±  %; Power Dissipation: Вт; Value on schem: *
pins: 1, 2

## R1206
designator R?  Package: 1206
Resistor 1206 package case; Value: * Ом; Tolerance: ±  %; Power Dissipation: Вт; Value on schem: *
pins: 1, 2

## R1210
designator R?  Package: 1210
Resistor 1210 package case; Value: * Ом; Tolerance: ±  %; Power Dissipation: Вт; Value on schem: *
pins: 1, 2


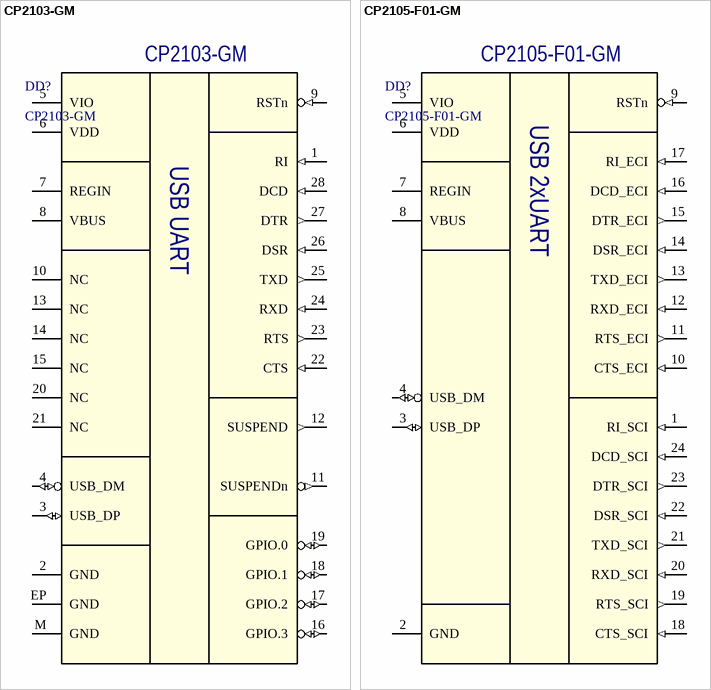
[diagram p28: symbols CP2103-GM to CP2105-F01-GM]

## CP2103-GM
designator DD?
USB to UART converter; Package: QFN28; Part Nubmer: CP2103-GM
pins: 1 RI (in), 2 GND (power), 3 USB_DP (io), 4 USB_DM (io), 5 VIO (power), 6 VDD (power), 7 REGIN (power), 8 VBUS (power), 9 RSTn (in), 10 NC, 11 SUSPENDn (out), 12 SUSPEND (out), 13 NC, 14 NC, 15 NC, 16 GPIO.3 (io), 17 GPIO.2 (io), 18 GPIO.1 (io), 19 GPIO.0 (io), 20 NC, 21 NC, 22 CTS (in), 23 RTS (out), 24 RXD (in), 25 TXD (out), 26 DSR (in), 27 DTR (out), 28 DCD (in), EP GND (power), M GND (power)
text: USB UART

## CP2105-F01-GM
designator DD?
USB to 2xUART converter; Package: QFN24; Part Nubmer: CP2105-F01-GM
pins: 1 RI_SCI (in), 2 GND (power), 3 USB_DP (io), 4 USB_DM (io), 5 VIO (power), 6 VDD (power), 7 REGIN (power), 8 VBUS (power), 9 RSTn (in), 10 CTS_ECI (in), 11 RTS_ECI (out), 12 RXD_ECI (in), 13 TXD_ECI (out), 14 DSR_ECI (in), 15 DTR_ECI (out), 16 DCD_ECI (in), 17 RI_ECI (in), 18 CTS_SCI (in), 19 RTS_SCI (out), 20 RXD_SCI (in), 21 TXD_SCI (out), 22 DSR_SCI (in), 23 DTR_SCI (out), 24 DCD_SCI (in)
text: USB 2xUART


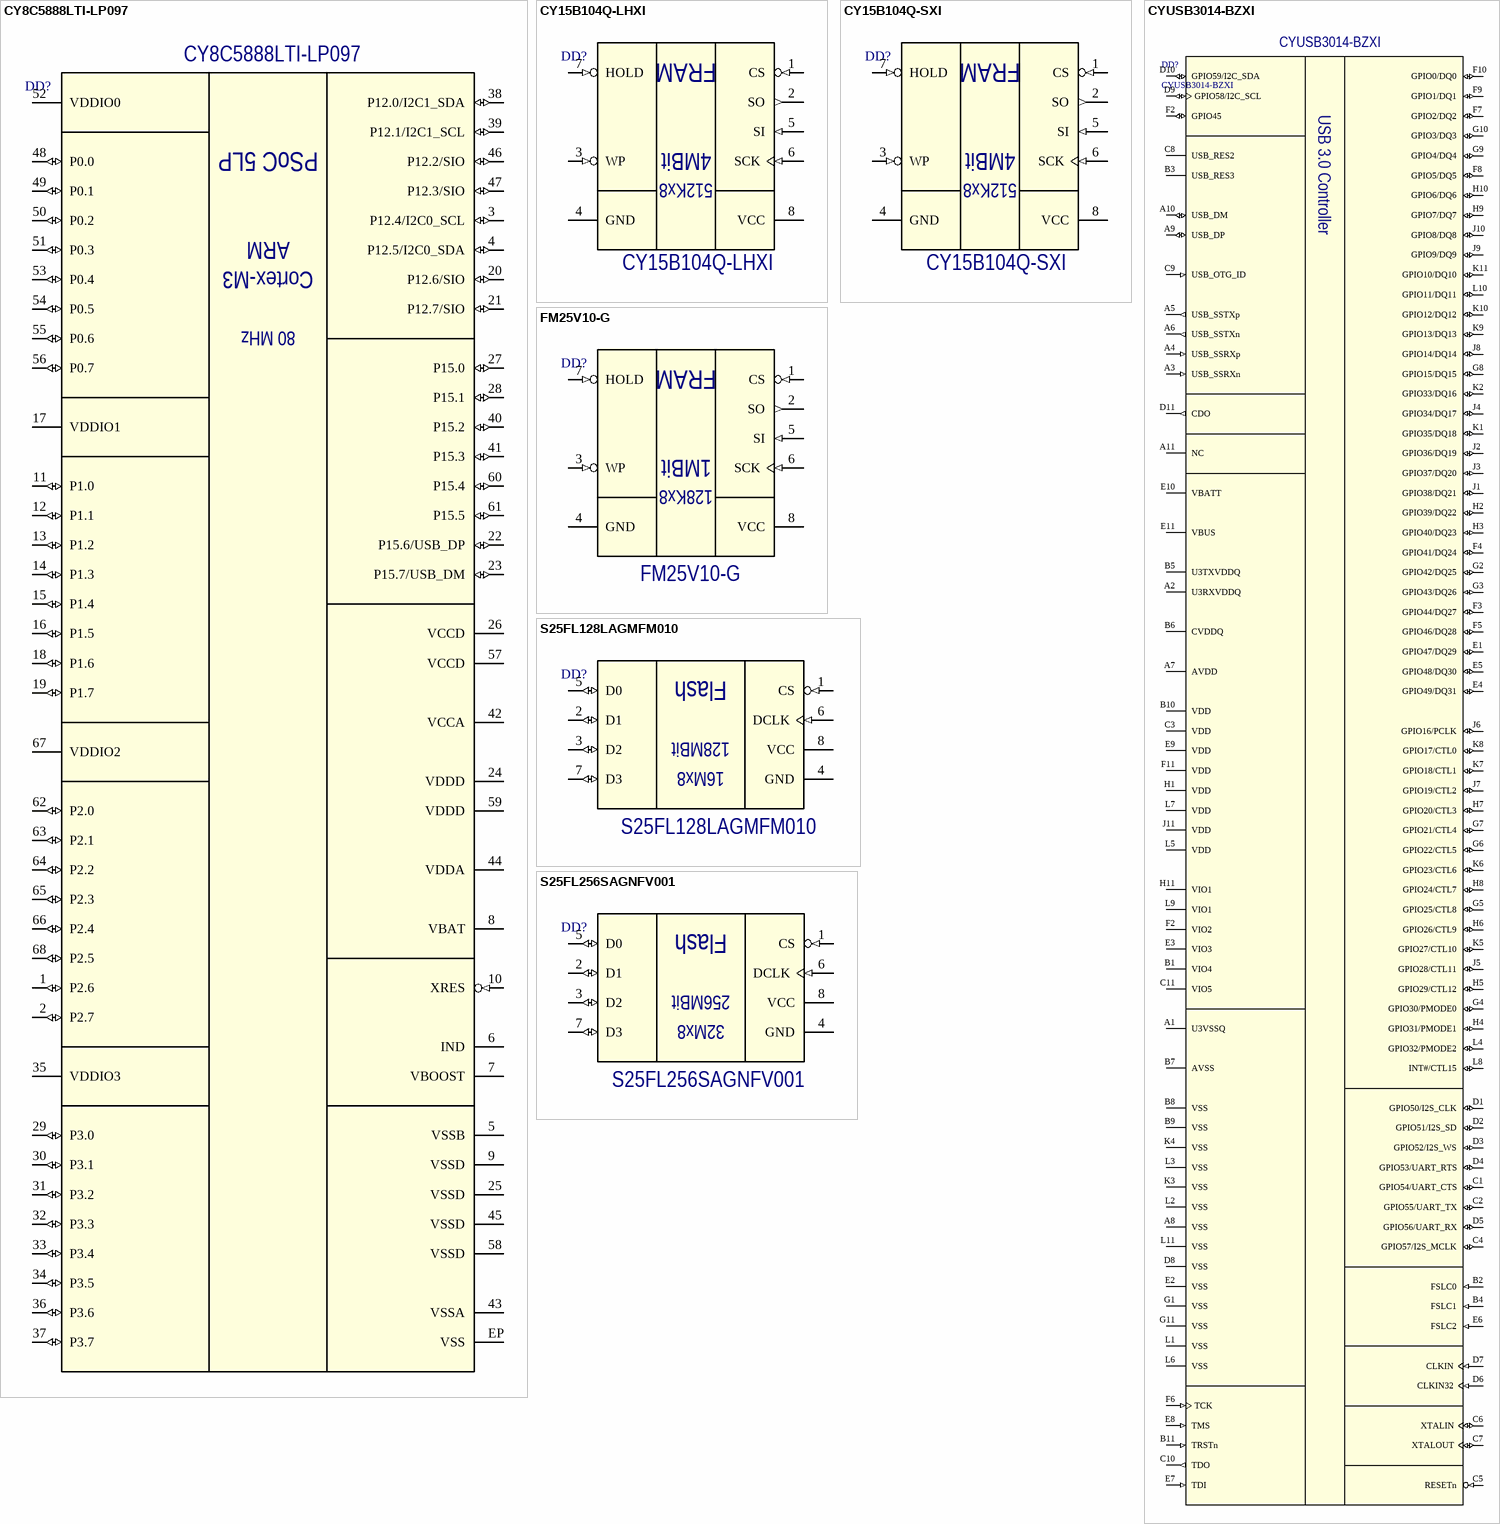
[diagram p29: symbols CY8C5888LTI-LP097 to S25FL256SAGNFV001]

## CY8C5888LTI-LP097
designator DD?
Embedded Programmable System-on-Chip PSoC 5LP; Package: 68-VFQFN Exposed Pad; Dimension package: 8 x 8 x 0.75 mm; Part Number: CY8C5888LTI-LP097
pins: 1 P2.6 (io), 2 P2.7 (io), 3 P12.4/I2C0_SCL (io), 4 P12.5/I2C0_SDA (io), 5 VSSB (power), 6 IND (hiz), 7 VBOOST (power), 8 VBAT (power), 9 VSSD (power), 10 XRES (in), 11 P1.0 (io), 12 P1.1 (io), 13 P1.2 (io), 14 P1.3 (io), 15 P1.4 (io), 16 P1.5 (io), 17 VDDIO1 (power), 18 P1.6 (io), 19 P1.7 (io), 20 P12.6/SIO (io), 21 P12.7/SIO (io), 22 P15.6/USB_DP (io), 23 P15.7/USB_DM (io), 24 VDDD (power), 25 VSSD (power), 26 VCCD (power), 27 P15.0 (io), 28 P15.1 (io), 29 P3.0 (io), 30 P3.1 (io), 31 P3.2 (io), 32 P3.3 (io), 33 P3.4 (io), 34 P3.5 (io), 35 VDDIO3 (power), 36 P3.6 (io), 37 P3.7 (io), 38 P12.0/I2C1_SDA (io), 39 P12.1/I2C1_SCL (io), 40 P15.2 (io), 41 P15.3 (io), 42 VCCA (power), 43 VSSA (power), 44 VDDA (power), 45 VSSD (power), 46 P12.2/SIO (io), 47 P12.3/SIO (io), 48 P0.0 (io), 49 P0.1 (io), 50 P0.2 (io), 51 P0.3 (io), 52 VDDIO0 (power), 53 P0.4 (io), 54 P0.5 (io), 55 P0.6 (io), 56 P0.7 (io), 57 VCCD (power), 58 VSSD (power), 59 VDDD (power), 60 P15.4 (io), 61 P15.5 (io), 62 P2.0 (io), 63 P2.1 (io), 64 P2.2 (io), 65 P2.3 (io), 66 P2.4 (io), 67 VDDIO2 (power), 68 P2.5 (io), EP VSS (power)
text: PSoC 5LP; ARM; Cortex-M3; 80 MHz

## CY15B104Q-LHXI
designator DD?
FRAM Memory 4MBit (512K x 8); Package: TDFN-8; Dimension package: 5 x 6 x 0.75 mm; Part Number: CY15B104Q-LHXI
pins: 1 CS (in), 2 SO (out), 3 WP (in), 4 GND (power), 5 SI (in), 6 SCK (in), 7 HOLD (in), 8 VCC (power)
text: FRAM; 4MBit; 512Kx8

## CY15B104Q-SXI
designator DD?
FRAM Memory 4MBit (512K x 8); Package: SOIC8; Part Number: CY15B104Q-SXI
pins: 1 CS (in), 2 SO (out), 3 WP (in), 4 GND (power), 5 SI (in), 6 SCK (in), 7 HOLD (in), 8 VCC (power)
text: FRAM; 4MBit; 512Kx8